# Altium integrated library ST Microcontroller 32-Bit.IntLib: 27 symbols (part 4 of 5)
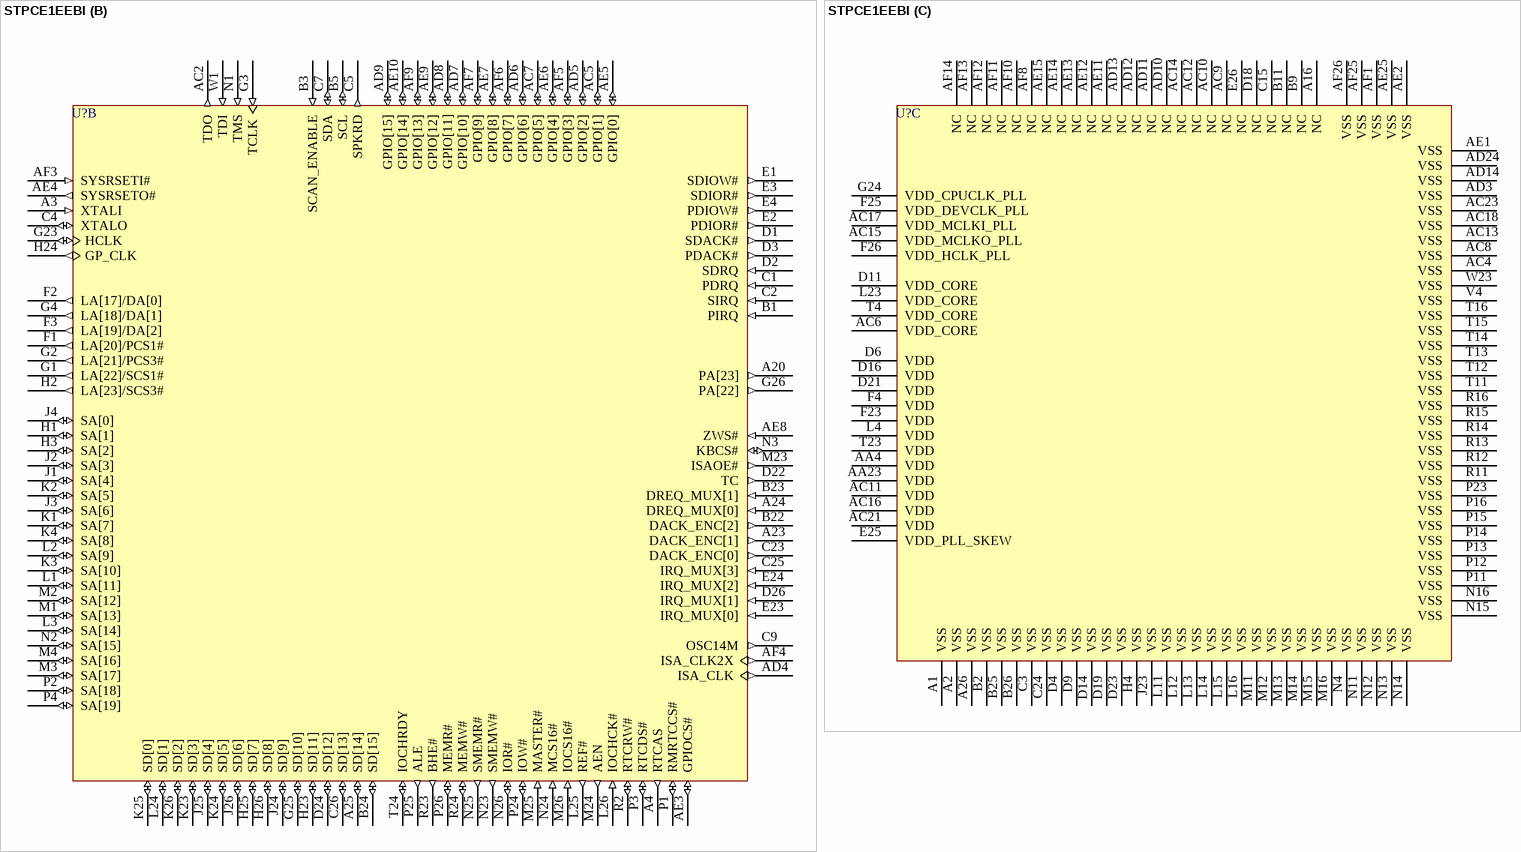
[diagram p66: symbol STPCE1EEBI]

## STPCE1EEBI
designator U?
X86 Core General Purpose PC Compatible System-on-Chip, 100 MHz Core Speed, 388-Pin PBGA, Industrial; Published: 26-May-2004; LatestRevisionDate: 6-Jun-2005; LatestRevisionNote: Stylized 3D Model Added.; DatasheetDocument: Release 1.3, 29-Jan-2002; PackageDocument: Oct-2000; PackageReference: PBGA388; Publisher: Altium Limited; ComponentLink1Description: Manufacturer Link; ComponentLink1URL: http://www.st.com/; ComponentLink2Description: Datasheet; ComponentLink2URL: http://www.st.com/stonline/products/literature/ds/7342/elite.pdf
footprint PBGA388 (BGA, Plastic; 388 Balls; Body 35 x 35 mm; Pitch 1.27 mm)
3D model STPCE1-PBGA388 (BGA, Plastic; 388 Balls; Body 35 x 35 mm; Pitch 1.27 mm)
part A pins: A5 PCI_INT[0] (in), A6 LOCK# (in), A7 STOP# (io), A8 FRAME# (io), A9 CBE[2] (io), A10 AD[31] (io), A11 AD[27] (io), A12 AD[25] (io), A13 AD[21] (io), A14 AD[18] (io), A15 AD[14] (io), A17 AD[9] (io), A18 AD[6] (io), A19 AD[3] (io), A21 PCI_REQ#[2] (in), A22 PCI_GNT#[1] (out), AA1 MD[20] (io), AA2 MD[18] (io), AA3 MD[24] (io), AA24 MD[44] (io), AA25 MD[42] (io), AA26 MD[45] (io), AB1 MD[23] (io), AB2 MD[22] (io), AB3 MD[27] (io), AB4 MD[25] (io), AB23 MCLKO (out), AB24 MD[40] (io), AB25 MD[39] (io), AB26 MD[41] (io), AC1 MD[26] (io), AC3 MD[29] (io), AC19 BA[0] (out), AC20 CAS#[1] (out), AC22 MWE# (out), AC24 MD[37] (io), AC25 MD[36] (io), AC26 MD[38] (io), AD1 MD[30] (io), AD2 MD[28] (io), AD15 MA[1] (out), AD16 MA[4] (out), AD17 MA[7] (out), AD18 DQM#[7] (out), AD19 DQM#[1] (out), AD20 DQM#[3] (out), AD21 CS#[1] (out), AD22 RAS#[1] (out), AD23 CS#[3]/MA[12]/BA[1] (out), AD25 MD[34] (io), AD26 MD[35] (io), AE16 MA[0] (out), AE17 MA[3] (out), AE18 MA[6] (out), AE19 MA[9] (out), AE20 MA[10] (out), AE21 CAS#[0] (out), AE22 DQM#[4] (out), AE23 DQM#[5] (out), AE24 CS#[2]/MA[11] (out), AE26 MD[33] (io), AF2 MD[31] (io), AF15 MCLKI (in), AF16 MA[2] (out), AF17 MA[5] (out), AF18 MA[8] (out), AF19 DQM#[6] (out), AF20 DQM#[0] (out), AF21 DQM#[2] (out), AF22 CS#[0] (out), AF23 RAS#[0] (out), AF24 MD[32] (io), B4 PCI_INT[2] (in), B6 PAR (io), B7 TRDY# (io), B8 CBE[3] (io), B10 AD[29] (io), B12 AD[23] (io), B13 AD[19] (io), B14 AD[16] (io), B15 AD[13] (io), B16 AD[11] (io), B17 AD[7] (io), B18 AD[5] (io), B19 AD[2] (io), B20 AD[0] (io), B21 PCI_GNT#[2] (out), C6 PCI_INT[1] (in), C8 DEVSEL# (io), C10 CBE[1] (io), C11 AD[30] (io), C12 AD[26] (io), C13 AD[24] (io), C14 AD[22] (io), C16 AD[15] (io), C17 AD[12] (io), C18 AD[8] (io), C19 AD[4] (io), C20 AD[1] (io), C21 PCI_REQ#[1] (in), C22 PCI_GNT#[0] (out), D5 PCI_INT[3] (in), D7 SERR# (out), D8 IRDY# (io), D10 CBE[0] (io), D12 AD[28] (io), D13 AD[20] (io), D15 AD[17] (io), D17 AD[10] (io), D20 PCI_REQ#[0] (in), D25 PCI_CLKO (out), F24 PCI_CLKI (in), R1 MD[0] (io), R3 MD[2] (io), R4 MD[4] (io), R25 MD[62] (io), R26 MD[63] (io), T1 MD[3] (io), T2 MD[1] (io), T3 MD[6] (io), T25 MD[59] (io), T26 MD[61] (io), U1 MD[7] (io), U2 MD[5] (io), U3 MD[10] (io), U4 MD[8] (io), U23 MD[58] (io), U24 MD[60] (io), U25 MD[55] (io), U26 MD[57] (io), V1 MD[11] (io), V2 MD[9] (io), V3 MD[13] (io), V23 MD[50] (io), V24 MD[56] (io), V25 MD[53] (io), V26 MD[54] (io), W2 MD[12] (io), W3 MD[17] (io), W4 MD[15] (io), W24 MD[52] (io), W25 MD[49] (io), W26 MD[51] (io), Y1 MD[16] (io), Y2 MD[14] (io), Y3 MD[21] (io), Y4 MD[19] (io), Y23 MD[43] (io), Y24 MD[48] (io), Y25 MD[46] (io), Y26 MD[47] (io)
part B pins: A3 XTALI (in), A4 RTCAS (out), A20 PA[23] (out), A23 DACK_ENC[1] (out), A24 DREQ_MUX[0] (in), A25 SD[14] (io), AC2 TDO (out), AC5 GPIO[1] (io), AC7 GPIO[5] (io), AD4 ISA_CLK (out), AD5 GPIO[2] (io), AD6 GPIO[6] (io), AD7 GPIO[10] (io), AD8 GPIO[11] (io), AD9 GPIO[15] (io), AE3 GPIOCS# (io), AE4 SYSRSETO# (out), AE5 GPIO[0] (io), AE6 GPIO[4] (io), AE7 GPIO[8] (io), AE8 ZWS# (in), AE9 GPIO[12] (io), AE10 GPIO[14] (io), AF3 SYSRSETI# (in), AF4 ISA_CLK2X (out), AF5 GPIO[3] (io), AF6 GPIO[7] (io), AF7 GPIO[9] (io), AF9 GPIO[13] (io), B1 PIRQ (in), B3 SCAN_ENABLE (in), B5 SCL (io), B22 DACK_ENC[2] (out), B23 DREQ_MUX[1] (in), B24 SD[15] (io), C1 PDRQ (in), C2 SIRQ (in), C4 XTALO (io), C5 SPKRD (out), C7 SDA (io), C9 OSC14M (out), C23 DACK_ENC[0] (out), C25 IRQ_MUX[3] (in), C26 SD[13] (io), D1 SDACK# (out), D2 SDRQ (in), D3 PDACK# (out), D22 TC (out), D24 SD[12] (io), D26 IRQ_MUX[1] (in), E1 SDIOW# (out), E2 PDIOR# (out), E3 SDIOR# (out), E4 PDIOW# (out), E23 IRQ_MUX[0] (in), E24 IRQ_MUX[2] (in), F1 LA[20]/PCS1# (out), F2 LA[17]/DA[0] (out), F3 LA[19]/DA[2] (out), G1 LA[22]/SCS1# (out), G2 LA[21]/PCS3# (out), G3 TCLK (in), G4 LA[18]/DA[1] (out), G23 HCLK (io), G25 SD[10] (io), G26 PA[22] (out), H1 SA[1] (io), H2 LA[23]/SCS3# (out), H3 SA[2] (io), H23 SD[11] (io), H24 GP_CLK (out), H25 SD[7] (io), H26 SD[8] (io), J1 SA[4] (io), J2 SA[3] (io), J3 SA[6] (io), J4 SA[0] (io), J24 SD[9] (io), J25 SD[4] (io), J26 SD[6] (io), K1 SA[7] (io), K2 SA[5] (io), K3 SA[10] (io), K4 SA[8] (io), K23 SD[3] (io), K24 SD[5] (io), K25 SD[0] (io), K26 SD[2] (io), L1 SA[11] (io), L2 SA[9] (io), L3 SA[14] (io), L24 SD[1] (io), L25 REF# (out), L26 IOCHCK# (in), M1 SA[13] (io), M2 SA[12] (io), M3 SA[17] (io), M4 SA[16] (io), M23 ISAOE# (out), M24 AEN (out), M25 MASTER# (in), M26 IOCS16# (in), N1 TMS (in), N2 SA[15] (io), N3 KBCS# (io), N23 SMEMW# (out), N24 MCS16# (in), N25 SMEMR# (out), N26 IOR# (io), P1 RMRTCCS# (io), P2 SA[18] (io), P3 RTCDS# (io), P4 SA[19] (io), P24 IOW# (io), P25 ALE (out), P26 MEMR# (io), R2 RTCRW# (io), R23 BHE# (out), R24 MEMW# (io), T24 IOCHRDY (io), W1 TDI (in)
part C pins: A1 VSS (power), A2 VSS (power), A16 NC, A26 VSS (power), AA4 VDD (power), AA23 VDD (power), AC4 VSS (power), AC6 VDD_CORE (power), AC8 VSS (power), AC9 NC, AC10 NC, AC11 VDD (power), AC12 NC, AC13 VSS (power), AC14 NC, AC15 VDD_MCLKO_PLL (power), AC16 VDD (power), AC17 VDD_MCLKI_PLL (power), AC18 VSS (power), AC21 VDD (power), AC23 VSS (power), AD3 VSS (power), AD10 NC, AD11 NC, AD12 NC, AD13 NC, AD14 VSS (power), AD24 VSS (power), AE1 VSS (power), AE2 VSS (power), AE11 NC, AE12 NC, AE13 NC, AE14 NC, AE15 NC, AE25 VSS (power), AF1 VSS (power), AF8 NC, AF10 NC, AF11 NC, AF12 NC, AF13 NC, AF14 NC, AF25 VSS (power), AF26 VSS (power), B2 VSS (power), B9 NC, B11 NC, B25 VSS (power), B26 VSS (power), C3 VSS (power), C15 NC, C24 VSS (power), D4 VSS (power), D6 VDD (power), D9 VSS (power), D11 VDD_CORE (power), D14 VSS (power), D16 VDD (power), D18 NC, D19 VSS (power), D21 VDD (power), D23 VSS (power), E25 VDD_PLL_SKEW (power), E26 NC, F4 VDD (power), F23 VDD (power), F25 VDD_DEVCLK_PLL (power), F26 VDD_HCLK_PLL (power), G24 VDD_CPUCLK_PLL (power), H4 VSS (power), J23 VSS (power), L4 VDD (power), L11 VSS (power), L12 VSS (power), L13 VSS (power), L14 VSS (power), L15 VSS (power), L16 VSS (power), L23 VDD_CORE (power), M11 VSS (power), M12 VSS (power), M13 VSS (power), M14 VSS (power), M15 VSS (power), M16 VSS (power), N4 VSS (power), N11 VSS (power), N12 VSS (power), N13 VSS (power), N14 VSS (power), N15 VSS (power), N16 VSS (power), P11 VSS (power), P12 VSS (power), P13 VSS (power), P14 VSS (power), P15 VSS (power), P16 VSS (power), P23 VSS (power), R11 VSS (power), R12 VSS (power), R13 VSS (power), R14 VSS (power), R15 VSS (power), R16 VSS (power), T4 VDD_CORE (power), T11 VSS (power), T12 VSS (power), T13 VSS (power), T14 VSS (power), T15 VSS (power), T16 VSS (power), T23 VDD (power), V4 VSS (power), W23 VSS (power)

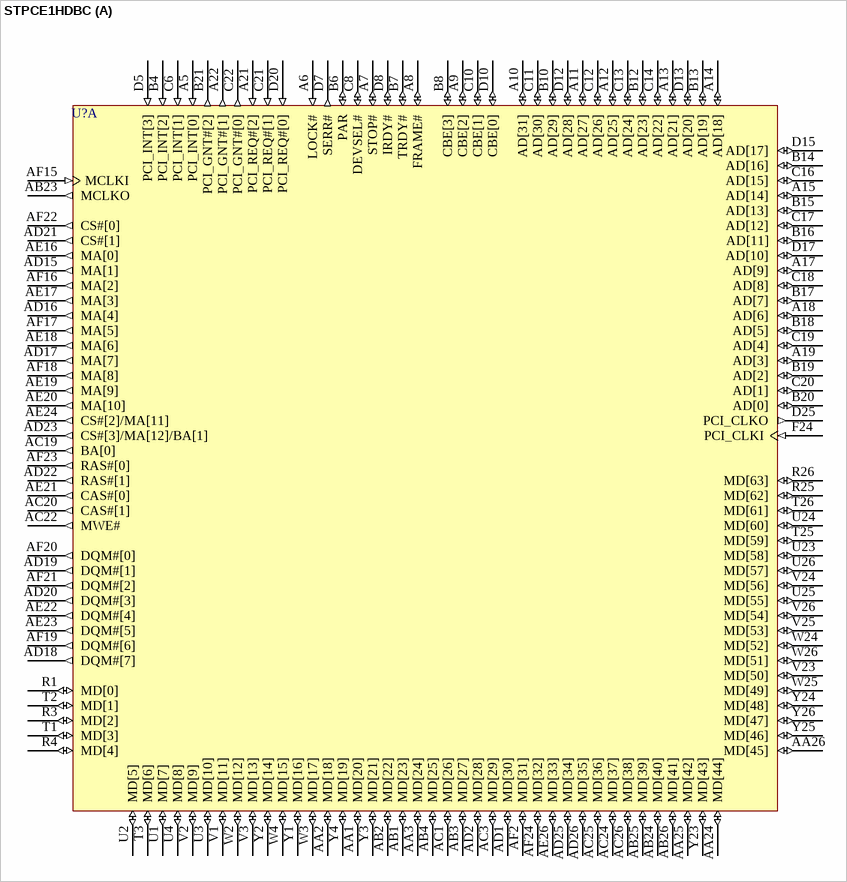
[diagram p42: symbol STPCE1HDBC]

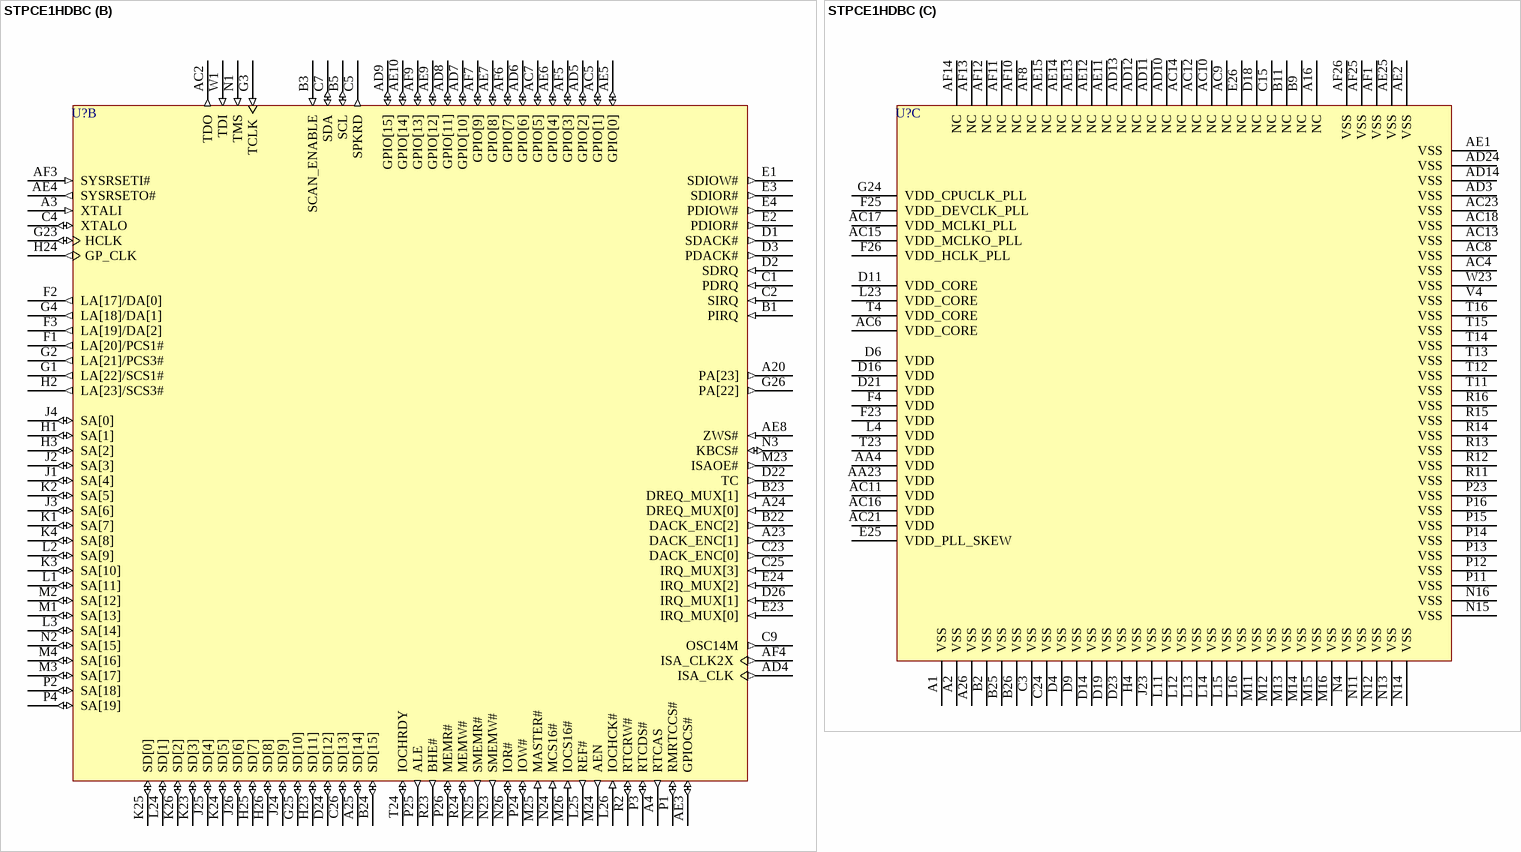
[diagram p43: symbol STPCE1HDBC]

## STPCE1HDBC
designator U?
X86 Core General Purpose PC Compatible System-on-Chip, 133 MHz Core Speed, 388-Pin PBGA, Commercial; Published: 26-May-2004; LatestRevisionDate: 6-Jun-2005; LatestRevisionNote: Stylized 3D Model Added.; DatasheetDocument: Release 1.3, 29-Jan-2002; PackageDocument: Oct-2000; PackageReference: PBGA388; Publisher: Altium Limited; ComponentLink1Description: Manufacturer Link; ComponentLink1URL: http://www.st.com/; ComponentLink2Description: Datasheet; ComponentLink2URL: http://www.st.com/stonline/products/literature/ds/7342/elite.pdf
footprint PBGA388 (BGA, Plastic; 388 Balls; Body 35 x 35 mm; Pitch 1.27 mm)
3D model STPCE1-PBGA388 (BGA, Plastic; 388 Balls; Body 35 x 35 mm; Pitch 1.27 mm)
part A pins: A5 PCI_INT[0] (in), A6 LOCK# (in), A7 STOP# (io), A8 FRAME# (io), A9 CBE[2] (io), A10 AD[31] (io), A11 AD[27] (io), A12 AD[25] (io), A13 AD[21] (io), A14 AD[18] (io), A15 AD[14] (io), A17 AD[9] (io), A18 AD[6] (io), A19 AD[3] (io), A21 PCI_REQ#[2] (in), A22 PCI_GNT#[1] (out), AA1 MD[20] (io), AA2 MD[18] (io), AA3 MD[24] (io), AA24 MD[44] (io), AA25 MD[42] (io), AA26 MD[45] (io), AB1 MD[23] (io), AB2 MD[22] (io), AB3 MD[27] (io), AB4 MD[25] (io), AB23 MCLKO (out), AB24 MD[40] (io), AB25 MD[39] (io), AB26 MD[41] (io), AC1 MD[26] (io), AC3 MD[29] (io), AC19 BA[0] (out), AC20 CAS#[1] (out), AC22 MWE# (out), AC24 MD[37] (io), AC25 MD[36] (io), AC26 MD[38] (io), AD1 MD[30] (io), AD2 MD[28] (io), AD15 MA[1] (out), AD16 MA[4] (out), AD17 MA[7] (out), AD18 DQM#[7] (out), AD19 DQM#[1] (out), AD20 DQM#[3] (out), AD21 CS#[1] (out), AD22 RAS#[1] (out), AD23 CS#[3]/MA[12]/BA[1] (out), AD25 MD[34] (io), AD26 MD[35] (io), AE16 MA[0] (out), AE17 MA[3] (out), AE18 MA[6] (out), AE19 MA[9] (out), AE20 MA[10] (out), AE21 CAS#[0] (out), AE22 DQM#[4] (out), AE23 DQM#[5] (out), AE24 CS#[2]/MA[11] (out), AE26 MD[33] (io), AF2 MD[31] (io), AF15 MCLKI (in), AF16 MA[2] (out), AF17 MA[5] (out), AF18 MA[8] (out), AF19 DQM#[6] (out), AF20 DQM#[0] (out), AF21 DQM#[2] (out), AF22 CS#[0] (out), AF23 RAS#[0] (out), AF24 MD[32] (io), B4 PCI_INT[2] (in), B6 PAR (io), B7 TRDY# (io), B8 CBE[3] (io), B10 AD[29] (io), B12 AD[23] (io), B13 AD[19] (io), B14 AD[16] (io), B15 AD[13] (io), B16 AD[11] (io), B17 AD[7] (io), B18 AD[5] (io), B19 AD[2] (io), B20 AD[0] (io), B21 PCI_GNT#[2] (out), C6 PCI_INT[1] (in), C8 DEVSEL# (io), C10 CBE[1] (io), C11 AD[30] (io), C12 AD[26] (io), C13 AD[24] (io), C14 AD[22] (io), C16 AD[15] (io), C17 AD[12] (io), C18 AD[8] (io), C19 AD[4] (io), C20 AD[1] (io), C21 PCI_REQ#[1] (in), C22 PCI_GNT#[0] (out), D5 PCI_INT[3] (in), D7 SERR# (out), D8 IRDY# (io), D10 CBE[0] (io), D12 AD[28] (io), D13 AD[20] (io), D15 AD[17] (io), D17 AD[10] (io), D20 PCI_REQ#[0] (in), D25 PCI_CLKO (out), F24 PCI_CLKI (in), R1 MD[0] (io), R3 MD[2] (io), R4 MD[4] (io), R25 MD[62] (io), R26 MD[63] (io), T1 MD[3] (io), T2 MD[1] (io), T3 MD[6] (io), T25 MD[59] (io), T26 MD[61] (io), U1 MD[7] (io), U2 MD[5] (io), U3 MD[10] (io), U4 MD[8] (io), U23 MD[58] (io), U24 MD[60] (io), U25 MD[55] (io), U26 MD[57] (io), V1 MD[11] (io), V2 MD[9] (io), V3 MD[13] (io), V23 MD[50] (io), V24 MD[56] (io), V25 MD[53] (io), V26 MD[54] (io), W2 MD[12] (io), W3 MD[17] (io), W4 MD[15] (io), W24 MD[52] (io), W25 MD[49] (io), W26 MD[51] (io), Y1 MD[16] (io), Y2 MD[14] (io), Y3 MD[21] (io), Y4 MD[19] (io), Y23 MD[43] (io), Y24 MD[48] (io), Y25 MD[46] (io), Y26 MD[47] (io)
part B pins: A3 XTALI (in), A4 RTCAS (out), A20 PA[23] (out), A23 DACK_ENC[1] (out), A24 DREQ_MUX[0] (in), A25 SD[14] (io), AC2 TDO (out), AC5 GPIO[1] (io), AC7 GPIO[5] (io), AD4 ISA_CLK (out), AD5 GPIO[2] (io), AD6 GPIO[6] (io), AD7 GPIO[10] (io), AD8 GPIO[11] (io), AD9 GPIO[15] (io), AE3 GPIOCS# (io), AE4 SYSRSETO# (out), AE5 GPIO[0] (io), AE6 GPIO[4] (io), AE7 GPIO[8] (io), AE8 ZWS# (in), AE9 GPIO[12] (io), AE10 GPIO[14] (io), AF3 SYSRSETI# (in), AF4 ISA_CLK2X (out), AF5 GPIO[3] (io), AF6 GPIO[7] (io), AF7 GPIO[9] (io), AF9 GPIO[13] (io), B1 PIRQ (in), B3 SCAN_ENABLE (in), B5 SCL (io), B22 DACK_ENC[2] (out), B23 DREQ_MUX[1] (in), B24 SD[15] (io), C1 PDRQ (in), C2 SIRQ (in), C4 XTALO (io), C5 SPKRD (out), C7 SDA (io), C9 OSC14M (out), C23 DACK_ENC[0] (out), C25 IRQ_MUX[3] (in), C26 SD[13] (io), D1 SDACK# (out), D2 SDRQ (in), D3 PDACK# (out), D22 TC (out), D24 SD[12] (io), D26 IRQ_MUX[1] (in), E1 SDIOW# (out), E2 PDIOR# (out), E3 SDIOR# (out), E4 PDIOW# (out), E23 IRQ_MUX[0] (in), E24 IRQ_MUX[2] (in), F1 LA[20]/PCS1# (out), F2 LA[17]/DA[0] (out), F3 LA[19]/DA[2] (out), G1 LA[22]/SCS1# (out), G2 LA[21]/PCS3# (out), G3 TCLK (in), G4 LA[18]/DA[1] (out), G23 HCLK (io), G25 SD[10] (io), G26 PA[22] (out), H1 SA[1] (io), H2 LA[23]/SCS3# (out), H3 SA[2] (io), H23 SD[11] (io), H24 GP_CLK (out), H25 SD[7] (io), H26 SD[8] (io), J1 SA[4] (io), J2 SA[3] (io), J3 SA[6] (io), J4 SA[0] (io), J24 SD[9] (io), J25 SD[4] (io), J26 SD[6] (io), K1 SA[7] (io), K2 SA[5] (io), K3 SA[10] (io), K4 SA[8] (io), K23 SD[3] (io), K24 SD[5] (io), K25 SD[0] (io), K26 SD[2] (io), L1 SA[11] (io), L2 SA[9] (io), L3 SA[14] (io), L24 SD[1] (io), L25 REF# (out), L26 IOCHCK# (in), M1 SA[13] (io), M2 SA[12] (io), M3 SA[17] (io), M4 SA[16] (io), M23 ISAOE# (out), M24 AEN (out), M25 MASTER# (in), M26 IOCS16# (in), N1 TMS (in), N2 SA[15] (io), N3 KBCS# (io), N23 SMEMW# (out), N24 MCS16# (in), N25 SMEMR# (out), N26 IOR# (io), P1 RMRTCCS# (io), P2 SA[18] (io), P3 RTCDS# (io), P4 SA[19] (io), P24 IOW# (io), P25 ALE (out), P26 MEMR# (io), R2 RTCRW# (io), R23 BHE# (out), R24 MEMW# (io), T24 IOCHRDY (io), W1 TDI (in)
part C pins: A1 VSS (power), A2 VSS (power), A16 NC, A26 VSS (power), AA4 VDD (power), AA23 VDD (power), AC4 VSS (power), AC6 VDD_CORE (power), AC8 VSS (power), AC9 NC, AC10 NC, AC11 VDD (power), AC12 NC, AC13 VSS (power), AC14 NC, AC15 VDD_MCLKO_PLL (power), AC16 VDD (power), AC17 VDD_MCLKI_PLL (power), AC18 VSS (power), AC21 VDD (power), AC23 VSS (power), AD3 VSS (power), AD10 NC, AD11 NC, AD12 NC, AD13 NC, AD14 VSS (power), AD24 VSS (power), AE1 VSS (power), AE2 VSS (power), AE11 NC, AE12 NC, AE13 NC, AE14 NC, AE15 NC, AE25 VSS (power), AF1 VSS (power), AF8 NC, AF10 NC, AF11 NC, AF12 NC, AF13 NC, AF14 NC, AF25 VSS (power), AF26 VSS (power), B2 VSS (power), B9 NC, B11 NC, B25 VSS (power), B26 VSS (power), C3 VSS (power), C15 NC, C24 VSS (power), D4 VSS (power), D6 VDD (power), D9 VSS (power), D11 VDD_CORE (power), D14 VSS (power), D16 VDD (power), D18 NC, D19 VSS (power), D21 VDD (power), D23 VSS (power), E25 VDD_PLL_SKEW (power), E26 NC, F4 VDD (power), F23 VDD (power), F25 VDD_DEVCLK_PLL (power), F26 VDD_HCLK_PLL (power), G24 VDD_CPUCLK_PLL (power), H4 VSS (power), J23 VSS (power), L4 VDD (power), L11 VSS (power), L12 VSS (power), L13 VSS (power), L14 VSS (power), L15 VSS (power), L16 VSS (power), L23 VDD_CORE (power), M11 VSS (power), M12 VSS (power), M13 VSS (power), M14 VSS (power), M15 VSS (power), M16 VSS (power), N4 VSS (power), N11 VSS (power), N12 VSS (power), N13 VSS (power), N14 VSS (power), N15 VSS (power), N16 VSS (power), P11 VSS (power), P12 VSS (power), P13 VSS (power), P14 VSS (power), P15 VSS (power), P16 VSS (power), P23 VSS (power), R11 VSS (power), R12 VSS (power), R13 VSS (power), R14 VSS (power), R15 VSS (power), R16 VSS (power), T4 VDD_CORE (power), T11 VSS (power), T12 VSS (power), T13 VSS (power), T14 VSS (power), T15 VSS (power), T16 VSS (power), T23 VDD (power), V4 VSS (power), W23 VSS (power)

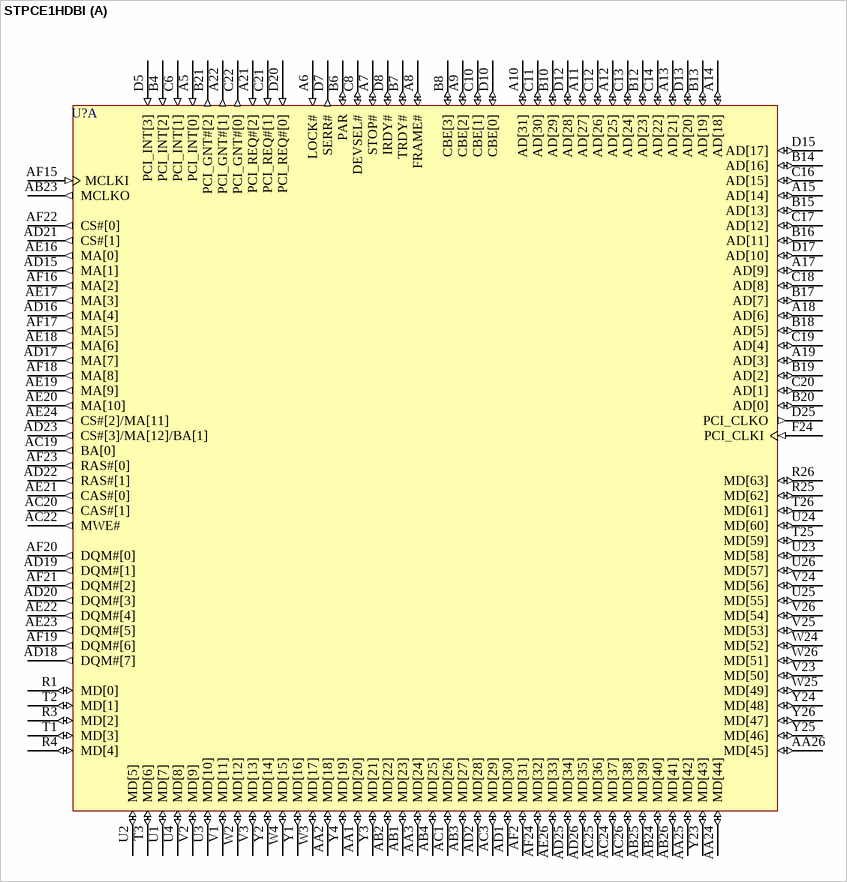
[diagram p44: symbol STPCE1HDBI]

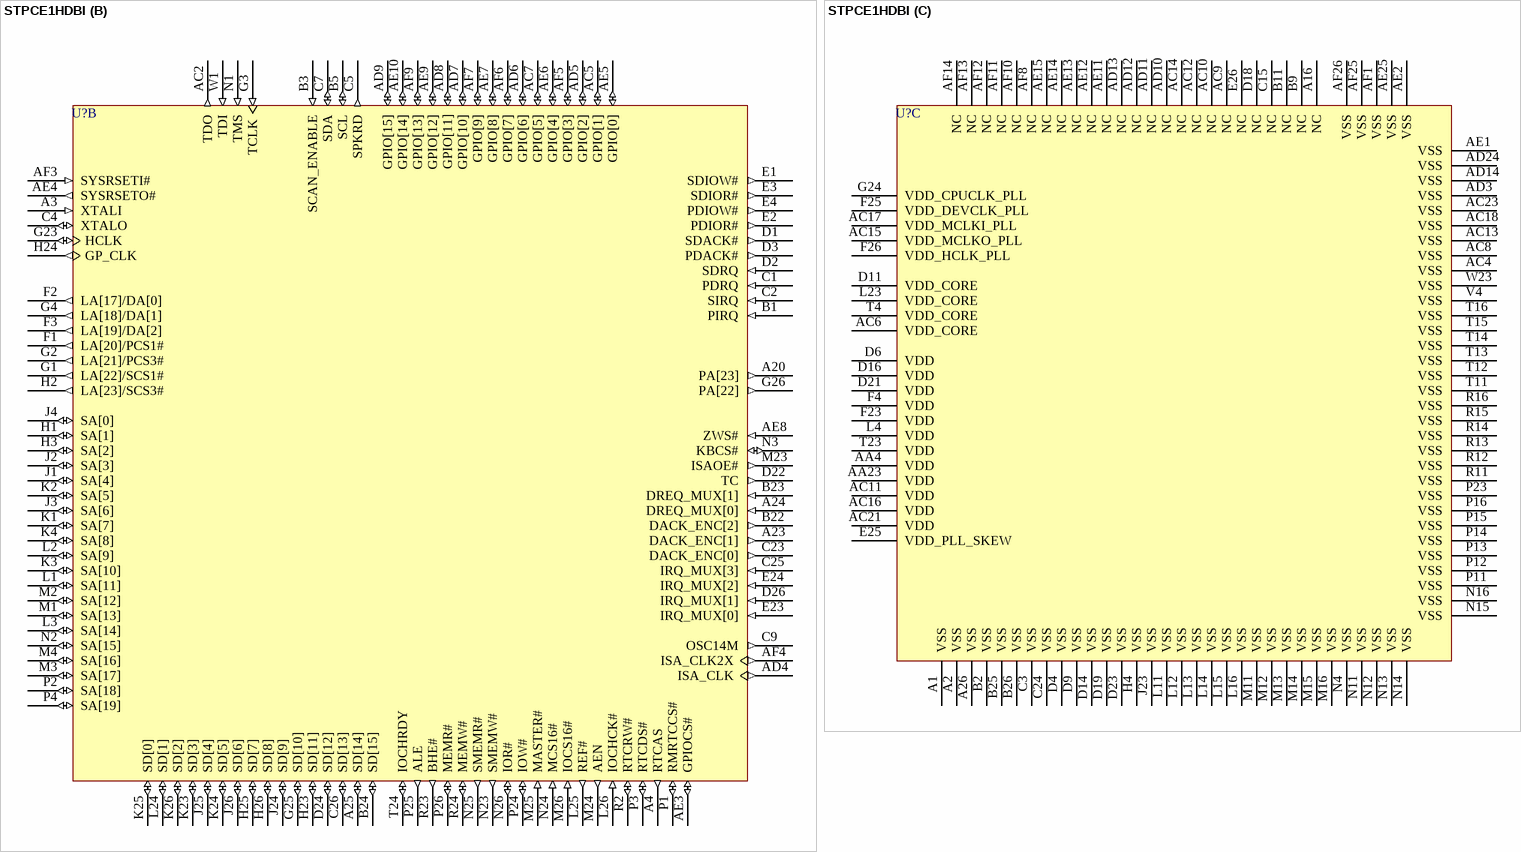
[diagram p45: symbol STPCE1HDBI]

## STPCE1HDBI
designator U?
X86 Core General Purpose PC Compatible System-on-Chip, 133 MHz Core Speed, 388-Pin PBGA, Industrial; Published: 26-May-2004; LatestRevisionDate: 6-Jun-2005; LatestRevisionNote: Stylized 3D Model Added.; DatasheetDocument: Release 1.3, 29-Jan-2002; PackageDocument: Oct-2000; PackageReference: PBGA388; Publisher: Altium Limited; ComponentLink1Description: Manufacturer Link; ComponentLink1URL: http://www.st.com/; ComponentLink2Description: Datasheet; ComponentLink2URL: http://www.st.com/stonline/products/literature/ds/7342/elite.pdf
footprint PBGA388 (BGA, Plastic; 388 Balls; Body 35 x 35 mm; Pitch 1.27 mm)
3D model STPCE1-PBGA388 (BGA, Plastic; 388 Balls; Body 35 x 35 mm; Pitch 1.27 mm)
part A pins: A5 PCI_INT[0] (in), A6 LOCK# (in), A7 STOP# (io), A8 FRAME# (io), A9 CBE[2] (io), A10 AD[31] (io), A11 AD[27] (io), A12 AD[25] (io), A13 AD[21] (io), A14 AD[18] (io), A15 AD[14] (io), A17 AD[9] (io), A18 AD[6] (io), A19 AD[3] (io), A21 PCI_REQ#[2] (in), A22 PCI_GNT#[1] (out), AA1 MD[20] (io), AA2 MD[18] (io), AA3 MD[24] (io), AA24 MD[44] (io), AA25 MD[42] (io), AA26 MD[45] (io), AB1 MD[23] (io), AB2 MD[22] (io), AB3 MD[27] (io), AB4 MD[25] (io), AB23 MCLKO (out), AB24 MD[40] (io), AB25 MD[39] (io), AB26 MD[41] (io), AC1 MD[26] (io), AC3 MD[29] (io), AC19 BA[0] (out), AC20 CAS#[1] (out), AC22 MWE# (out), AC24 MD[37] (io), AC25 MD[36] (io), AC26 MD[38] (io), AD1 MD[30] (io), AD2 MD[28] (io), AD15 MA[1] (out), AD16 MA[4] (out), AD17 MA[7] (out), AD18 DQM#[7] (out), AD19 DQM#[1] (out), AD20 DQM#[3] (out), AD21 CS#[1] (out), AD22 RAS#[1] (out), AD23 CS#[3]/MA[12]/BA[1] (out), AD25 MD[34] (io), AD26 MD[35] (io), AE16 MA[0] (out), AE17 MA[3] (out), AE18 MA[6] (out), AE19 MA[9] (out), AE20 MA[10] (out), AE21 CAS#[0] (out), AE22 DQM#[4] (out), AE23 DQM#[5] (out), AE24 CS#[2]/MA[11] (out), AE26 MD[33] (io), AF2 MD[31] (io), AF15 MCLKI (in), AF16 MA[2] (out), AF17 MA[5] (out), AF18 MA[8] (out), AF19 DQM#[6] (out), AF20 DQM#[0] (out), AF21 DQM#[2] (out), AF22 CS#[0] (out), AF23 RAS#[0] (out), AF24 MD[32] (io), B4 PCI_INT[2] (in), B6 PAR (io), B7 TRDY# (io), B8 CBE[3] (io), B10 AD[29] (io), B12 AD[23] (io), B13 AD[19] (io), B14 AD[16] (io), B15 AD[13] (io), B16 AD[11] (io), B17 AD[7] (io), B18 AD[5] (io), B19 AD[2] (io), B20 AD[0] (io), B21 PCI_GNT#[2] (out), C6 PCI_INT[1] (in), C8 DEVSEL# (io), C10 CBE[1] (io), C11 AD[30] (io), C12 AD[26] (io), C13 AD[24] (io), C14 AD[22] (io), C16 AD[15] (io), C17 AD[12] (io), C18 AD[8] (io), C19 AD[4] (io), C20 AD[1] (io), C21 PCI_REQ#[1] (in), C22 PCI_GNT#[0] (out), D5 PCI_INT[3] (in), D7 SERR# (out), D8 IRDY# (io), D10 CBE[0] (io), D12 AD[28] (io), D13 AD[20] (io), D15 AD[17] (io), D17 AD[10] (io), D20 PCI_REQ#[0] (in), D25 PCI_CLKO (out), F24 PCI_CLKI (in), R1 MD[0] (io), R3 MD[2] (io), R4 MD[4] (io), R25 MD[62] (io), R26 MD[63] (io), T1 MD[3] (io), T2 MD[1] (io), T3 MD[6] (io), T25 MD[59] (io), T26 MD[61] (io), U1 MD[7] (io), U2 MD[5] (io), U3 MD[10] (io), U4 MD[8] (io), U23 MD[58] (io), U24 MD[60] (io), U25 MD[55] (io), U26 MD[57] (io), V1 MD[11] (io), V2 MD[9] (io), V3 MD[13] (io), V23 MD[50] (io), V24 MD[56] (io), V25 MD[53] (io), V26 MD[54] (io), W2 MD[12] (io), W3 MD[17] (io), W4 MD[15] (io), W24 MD[52] (io), W25 MD[49] (io), W26 MD[51] (io), Y1 MD[16] (io), Y2 MD[14] (io), Y3 MD[21] (io), Y4 MD[19] (io), Y23 MD[43] (io), Y24 MD[48] (io), Y25 MD[46] (io), Y26 MD[47] (io)
part B pins: A3 XTALI (in), A4 RTCAS (out), A20 PA[23] (out), A23 DACK_ENC[1] (out), A24 DREQ_MUX[0] (in), A25 SD[14] (io), AC2 TDO (out), AC5 GPIO[1] (io), AC7 GPIO[5] (io), AD4 ISA_CLK (out), AD5 GPIO[2] (io), AD6 GPIO[6] (io), AD7 GPIO[10] (io), AD8 GPIO[11] (io), AD9 GPIO[15] (io), AE3 GPIOCS# (io), AE4 SYSRSETO# (out), AE5 GPIO[0] (io), AE6 GPIO[4] (io), AE7 GPIO[8] (io), AE8 ZWS# (in), AE9 GPIO[12] (io), AE10 GPIO[14] (io), AF3 SYSRSETI# (in), AF4 ISA_CLK2X (out), AF5 GPIO[3] (io), AF6 GPIO[7] (io), AF7 GPIO[9] (io), AF9 GPIO[13] (io), B1 PIRQ (in), B3 SCAN_ENABLE (in), B5 SCL (io), B22 DACK_ENC[2] (out), B23 DREQ_MUX[1] (in), B24 SD[15] (io), C1 PDRQ (in), C2 SIRQ (in), C4 XTALO (io), C5 SPKRD (out), C7 SDA (io), C9 OSC14M (out), C23 DACK_ENC[0] (out), C25 IRQ_MUX[3] (in), C26 SD[13] (io), D1 SDACK# (out), D2 SDRQ (in), D3 PDACK# (out), D22 TC (out), D24 SD[12] (io), D26 IRQ_MUX[1] (in), E1 SDIOW# (out), E2 PDIOR# (out), E3 SDIOR# (out), E4 PDIOW# (out), E23 IRQ_MUX[0] (in), E24 IRQ_MUX[2] (in), F1 LA[20]/PCS1# (out), F2 LA[17]/DA[0] (out), F3 LA[19]/DA[2] (out), G1 LA[22]/SCS1# (out), G2 LA[21]/PCS3# (out), G3 TCLK (in), G4 LA[18]/DA[1] (out), G23 HCLK (io), G25 SD[10] (io), G26 PA[22] (out), H1 SA[1] (io), H2 LA[23]/SCS3# (out), H3 SA[2] (io), H23 SD[11] (io), H24 GP_CLK (out), H25 SD[7] (io), H26 SD[8] (io), J1 SA[4] (io), J2 SA[3] (io), J3 SA[6] (io), J4 SA[0] (io), J24 SD[9] (io), J25 SD[4] (io), J26 SD[6] (io), K1 SA[7] (io), K2 SA[5] (io), K3 SA[10] (io), K4 SA[8] (io), K23 SD[3] (io), K24 SD[5] (io), K25 SD[0] (io), K26 SD[2] (io), L1 SA[11] (io), L2 SA[9] (io), L3 SA[14] (io), L24 SD[1] (io), L25 REF# (out), L26 IOCHCK# (in), M1 SA[13] (io), M2 SA[12] (io), M3 SA[17] (io), M4 SA[16] (io), M23 ISAOE# (out), M24 AEN (out), M25 MASTER# (in), M26 IOCS16# (in), N1 TMS (in), N2 SA[15] (io), N3 KBCS# (io), N23 SMEMW# (out), N24 MCS16# (in), N25 SMEMR# (out), N26 IOR# (io), P1 RMRTCCS# (io), P2 SA[18] (io), P3 RTCDS# (io), P4 SA[19] (io), P24 IOW# (io), P25 ALE (out), P26 MEMR# (io), R2 RTCRW# (io), R23 BHE# (out), R24 MEMW# (io), T24 IOCHRDY (io), W1 TDI (in)
part C pins: A1 VSS (power), A2 VSS (power), A16 NC, A26 VSS (power), AA4 VDD (power), AA23 VDD (power), AC4 VSS (power), AC6 VDD_CORE (power), AC8 VSS (power), AC9 NC, AC10 NC, AC11 VDD (power), AC12 NC, AC13 VSS (power), AC14 NC, AC15 VDD_MCLKO_PLL (power), AC16 VDD (power), AC17 VDD_MCLKI_PLL (power), AC18 VSS (power), AC21 VDD (power), AC23 VSS (power), AD3 VSS (power), AD10 NC, AD11 NC, AD12 NC, AD13 NC, AD14 VSS (power), AD24 VSS (power), AE1 VSS (power), AE2 VSS (power), AE11 NC, AE12 NC, AE13 NC, AE14 NC, AE15 NC, AE25 VSS (power), AF1 VSS (power), AF8 NC, AF10 NC, AF11 NC, AF12 NC, AF13 NC, AF14 NC, AF25 VSS (power), AF26 VSS (power), B2 VSS (power), B9 NC, B11 NC, B25 VSS (power), B26 VSS (power), C3 VSS (power), C15 NC, C24 VSS (power), D4 VSS (power), D6 VDD (power), D9 VSS (power), D11 VDD_CORE (power), D14 VSS (power), D16 VDD (power), D18 NC, D19 VSS (power), D21 VDD (power), D23 VSS (power), E25 VDD_PLL_SKEW (power), E26 NC, F4 VDD (power), F23 VDD (power), F25 VDD_DEVCLK_PLL (power), F26 VDD_HCLK_PLL (power), G24 VDD_CPUCLK_PLL (power), H4 VSS (power), J23 VSS (power), L4 VDD (power), L11 VSS (power), L12 VSS (power), L13 VSS (power), L14 VSS (power), L15 VSS (power), L16 VSS (power), L23 VDD_CORE (power), M11 VSS (power), M12 VSS (power), M13 VSS (power), M14 VSS (power), M15 VSS (power), M16 VSS (power), N4 VSS (power), N11 VSS (power), N12 VSS (power), N13 VSS (power), N14 VSS (power), N15 VSS (power), N16 VSS (power), P11 VSS (power), P12 VSS (power), P13 VSS (power), P14 VSS (power), P15 VSS (power), P16 VSS (power), P23 VSS (power), R11 VSS (power), R12 VSS (power), R13 VSS (power), R14 VSS (power), R15 VSS (power), R16 VSS (power), T4 VDD_CORE (power), T11 VSS (power), T12 VSS (power), T13 VSS (power), T14 VSS (power), T15 VSS (power), T16 VSS (power), T23 VDD (power), V4 VSS (power), W23 VSS (power)

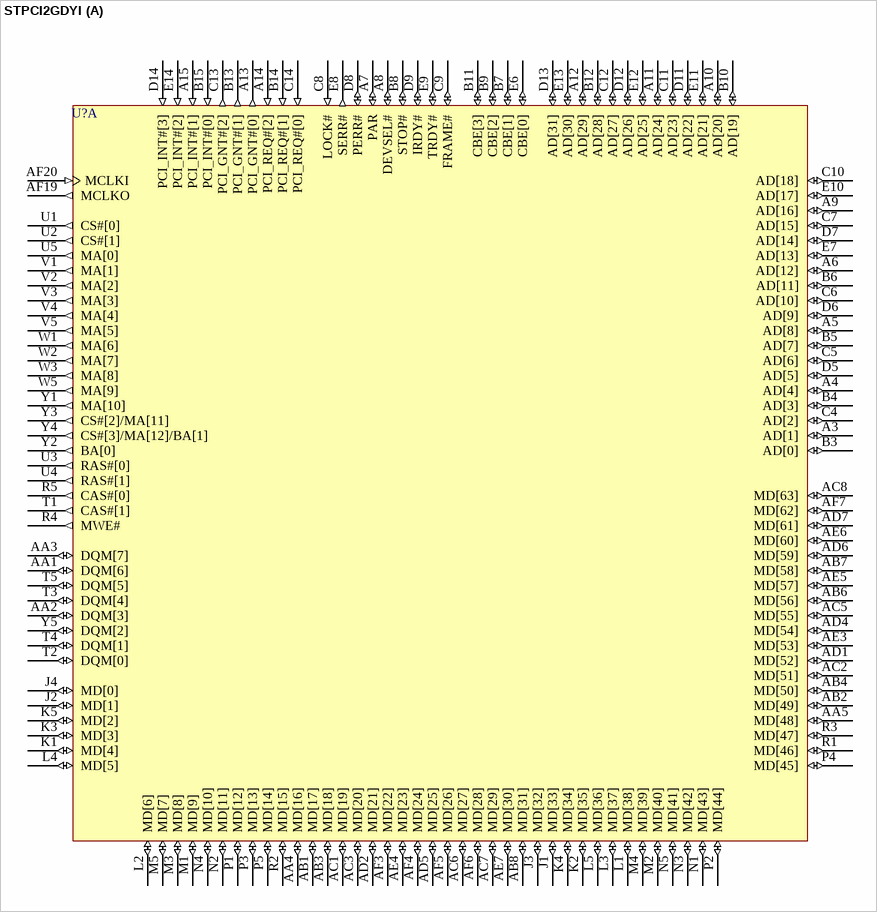
[diagram p46: symbol STPCI2GDYI]

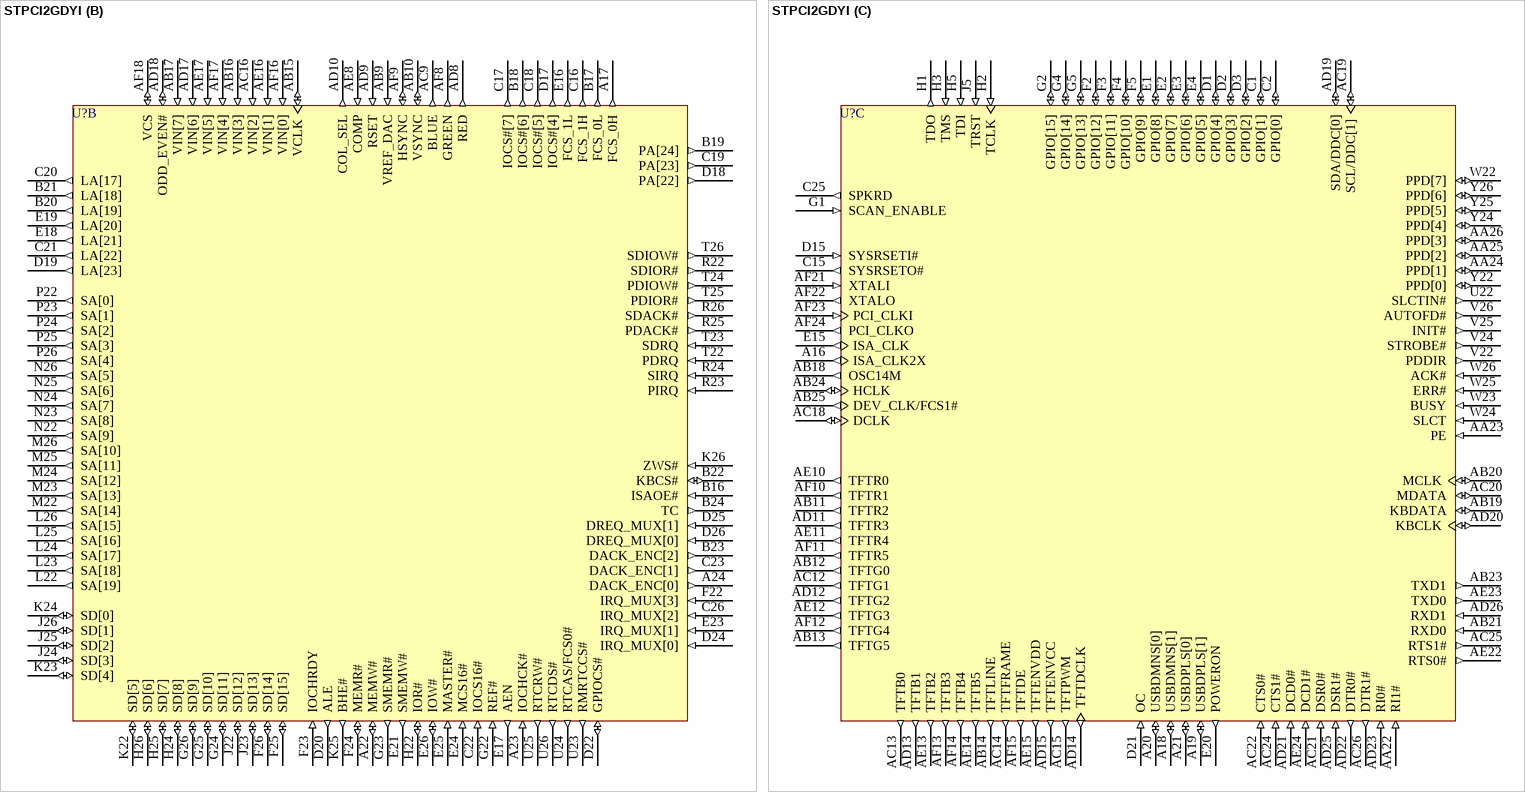
[diagram p47: symbol STPCI2GDYI]

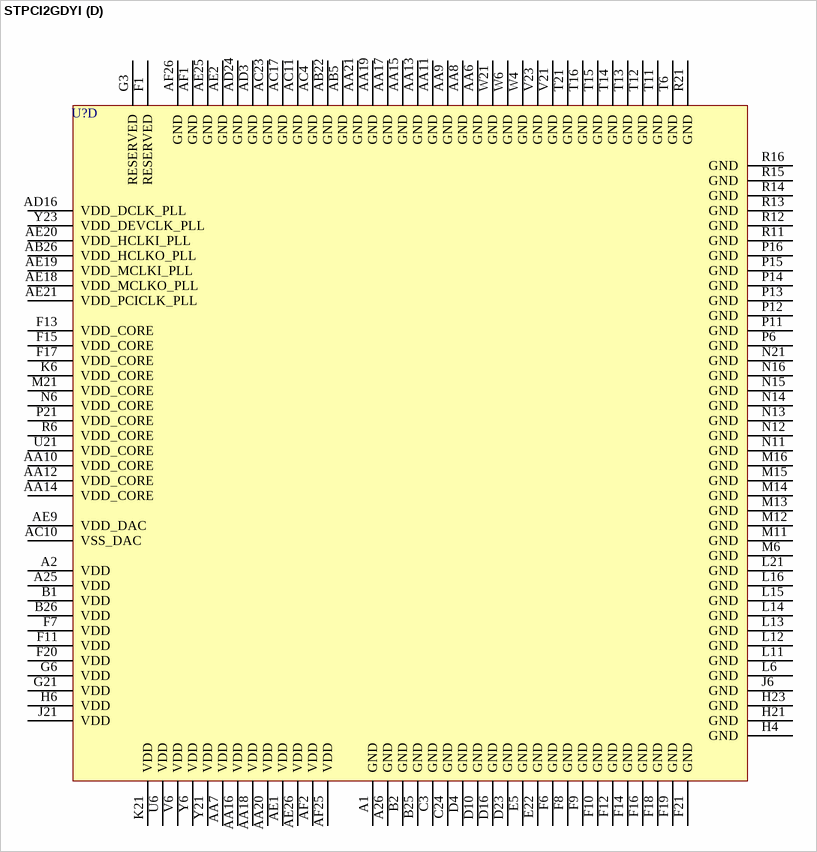
[diagram p48: symbol STPCI2GDYI]

## STPCI2GDYI
designator U?
X86 Core PC Compatible System-on-Chip for Terminals, 120 MHz Core Speed, 516-Pin PBGA, Industrial; Published: 26-May-2004; LatestRevisionDate: 6-Jun-2005; LatestRevisionNote: Stylized 3D Model Added.; DatasheetDocument: Issue 1.0, 24-Jul-2002; PackageDocument: Jul-2002; PackageReference: PBGA516; Publisher: Altium Limited; ComponentLink1Description: Manufacturer Link; ComponentLink1URL: http://www.st.com/; ComponentLink2Description: Datasheet; ComponentLink2URL: http://www.st.com/stonline/products/literature/ds/7341/atlas.pdf
footprint PBGA516 (BGA, Plastic; 516 Balls; Body 35 x 35 mm; Pitch 1.27 mm)
3D model STPCI2-PBGA516 (BGA, Plastic; 516 Balls; Body 35 x 35 mm; Pitch 1.27 mm)
part A pins: A3 AD[1] (io), A4 AD[4] (io), A5 AD[8] (io), A6 AD[12] (io), A7 PAR (io), A8 DEVSEL# (io), A9 AD[16] (io), A10 AD[20] (io), A11 AD[24] (io), A12 AD[29] (io), A13 PCI_GNT#[0] (out), A14 PCI_REQ#[2] (in), A15 PCI_INT#[1] (in), AA1 DQM[6] (io), AA2 DQM[3] (io), AA3 DQM[7] (io), AA4 MD[16] (io), AA5 MD[48] (io), AB1 MD[17] (io), AB2 MD[49] (io), AB3 MD[18] (io), AB4 MD[50] (io), AB6 MD[56] (io), AB7 MD[58] (io), AB8 MD[31] (io), AC1 MD[19] (io), AC2 MD[51] (io), AC3 MD[20] (io), AC5 MD[55] (io), AC6 MD[27] (io), AC7 MD[29] (io), AC8 MD[63] (io), AD1 MD[52] (io), AD2 MD[21] (io), AD4 MD[54] (io), AD5 MD[25] (io), AD6 MD[59] (io), AD7 MD[61] (io), AE3 MD[53] (io), AE4 MD[23] (io), AE5 MD[57] (io), AE6 MD[60] (io), AE7 MD[30] (io), AF3 MD[22] (io), AF4 MD[24] (io), AF5 MD[26] (io), AF6 MD[28] (io), AF7 MD[62] (io), AF19 MCLKO (out), AF20 MCLKI (in), B3 AD[0] (io), B4 AD[3] (io), B5 AD[7] (io), B6 AD[11] (io), B7 CBE[1] (io), B8 STOP# (io), B9 CBE[2] (io), B10 AD[19] (io), B11 CBE[3] (io), B12 AD[28] (io), B13 PCI_GNT#[1] (out), B14 PCI_REQ#[1] (in), B15 PCI_INT#[0] (in), C4 AD[2] (io), C5 AD[6] (io), C6 AD[10] (io), C7 AD[15] (io), C8 LOCK# (in), C9 FRAME# (io), C10 AD[18] (io), C11 AD[23] (io), C12 AD[27] (io), C13 PCI_GNT#[2] (out), C14 PCI_REQ#[0] (in), D5 AD[5] (io), D6 AD[9] (io), D7 AD[14] (io), D8 PERR# (io), D9 IRDY# (io), D11 AD[22] (io), D12 AD[26] (io), D13 AD[31] (io), D14 PCI_INT#[3] (in), E6 CBE[0] (io), E7 AD[13] (io), E8 SERR# (out), E9 TRDY# (io), E10 AD[17] (io), E11 AD[21] (io), E12 AD[25] (io), E13 AD[30] (io), E14 PCI_INT#[2] (in), J1 MD[33] (io), J2 MD[1] (io), J3 MD[32] (io), J4 MD[0] (io), K1 MD[4] (io), K2 MD[35] (io), K3 MD[3] (io), K4 MD[34] (io), K5 MD[2] (io), L1 MD[38] (io), L2 MD[6] (io), L3 MD[37] (io), L4 MD[5] (io), L5 MD[36] (io), M1 MD[9] (io), M2 MD[40] (io), M3 MD[8] (io), M4 MD[39] (io), M5 MD[7] (io), N1 MD[43] (io), N2 MD[11] (io), N3 MD[42] (io), N4 MD[10] (io), N5 MD[41] (io), P1 MD[12] (io), P2 MD[44] (io), P3 MD[13] (io), P4 MD[45] (io), P5 MD[14] (io), R1 MD[46] (io), R2 MD[15] (io), R3 MD[47] (io), R4 MWE# (out), R5 CAS#[0] (out), T1 CAS#[1] (out), T2 DQM[0] (io), T3 DQM[4] (io), T4 DQM[1] (io), T5 DQM[5] (io), U1 CS#[0] (out), U2 CS#[1] (out), U3 RAS#[0] (out), U4 RAS#[1] (out), U5 MA[0] (out), V1 MA[1] (out), V2 MA[2] (out), V3 MA[3] (out), V4 MA[4] (out), V5 MA[5] (out), W1 MA[6] (out), W2 MA[7] (out), W3 MA[8] (out), W5 MA[9] (out), Y1 MA[10] (out), Y2 BA[0] (out), Y3 CS#[2]/MA[11] (out), Y4 CS#[3]/MA[12]/BA[1] (out), Y5 DQM[2] (io)
part B pins: A17 FCS_0H (out), A22 MEMW# (io), A23 IOCHCK# (in), A24 DACK_ENC[0] (out), AB9 VREF_DAC (in), AB10 VSYNC (io), AB15 VCLK (io), AB16 VIN[3] (in), AB17 VIN[7] (in), AC9 BLUE (out), AC16 VIN[2] (in), AD8 RED (out), AD9 RSET (in), AD10 COL_SEL (out), AD17 VIN[6] (in), AD18 ODD_EVEN# (io), AE8 COMP (in), AE16 VIN[1] (in), AE17 VIN[5] (in), AF8 GREEN (out), AF9 HSYNC (io), AF16 VIN[0] (in), AF17 VIN[4] (in), AF18 VCS (io), B16 ISAOE# (in), B17 FCS_0L (out), B18 IOCS#[6] (out), B19 PA[24] (out), B20 LA[19] (out), B21 LA[18] (out), B22 KBCS# (io), B23 DACK_ENC[2] (out), B24 TC (out), C16 FCS_1H (out), C17 IOCS#[7] (out), C18 IOCS#[5] (out), C19 PA[23] (out), C20 LA[17] (out), C21 LA[22] (out), C22 IOCS16# (in), C23 DACK_ENC[1] (out), C26 IRQ_MUX[2] (in), D17 IOCS#[4] (out), D18 PA[22] (out), D19 LA[23] (out), D20 ALE (out), D22 GPIOCS# (io), D24 IRQ_MUX[0] (in), D25 DREQ_MUX[1] (in), D26 DREQ_MUX[0] (in), E16 FCS_1L (out), E17 AEN (out), E18 LA[21] (out), E19 LA[20] (out), E21 SMEMW# (out), E23 IRQ_MUX[1] (in), E24 MCS16# (in), E25 MASTER# (in), E26 IOW# (io), F22 IRQ_MUX[3] (in), F23 IOCHRDY (in), F24 MEMR# (io), F25 SD[15] (io), F26 SD[14] (io), G22 REF# (in), G23 SMEMR# (out), G24 SD[11] (io), G25 SD[10] (io), G26 SD[9] (io), H22 IOR# (io), H24 SD[8] (io), H25 SD[7] (io), H26 SD[6] (io), J22 SD[12] (io), J23 SD[13] (io), J24 SD[3] (io), J25 SD[2] (io), J26 SD[1] (io), K22 SD[5] (io), K23 SD[4] (io), K24 SD[0] (io), K25 BHE# (out), K26 ZWS# (in), L22 SA[19] (out), L23 SA[18] (out), L24 SA[17] (out), L25 SA[16] (out), L26 SA[15] (out), M22 SA[14] (out), M23 SA[13] (out), M24 SA[12] (out), M25 SA[11] (out), M26 SA[10] (out), N22 SA[9] (out), N23 SA[8] (out), N24 SA[7] (out), N25 SA[6] (out), N26 SA[5] (out), P22 SA[0] (out), P23 SA[1] (out), P24 SA[2] (out), P25 SA[3] (out), P26 SA[4] (out), R22 SDIOR# (out), R23 PIRQ (in), R24 SIRQ (in), R25 PDACK# (out), R26 SDACK# (out), T22 PDRQ (in), T23 SDRQ (in), T24 PDIOW# (out), T25 PDIOR# (out), T26 SDIOW# (out), U23 RMRTCCS# (out), U24 RTCAS/FCS0# (out), U25 RTCRW# (out), U26 RTCDS# (out)
part C pins: A16 ISA_CLK2X (out), A18 USBDMNS[1] (io), A19 USBDPLS[1] (io), A20 USBDMNS[0] (io), A21 USBDPLS[0] (io), AA22 RI1# (in), AA23 PE (in), AA24 PPD[1] (io), AA25 PPD[2] (io), AA26 PPD[3] (io), AB11 TFTR2 (out), AB12 TFTG0 (out), AB13 TFTG5 (out), AB14 TFTLINE (out), AB18 OSC14M (out), AB19 KBDATA (io), AB20 MCLK (io), AB21 RXD0 (in), AB23 TXD1 (out), AB24 HCLK (io), AB25 DEV_CLK/FCS1# (out), AC12 TFTG1 (out), AC13 TFTB0 (out), AC14 TFTFRAME (out), AC15 TFTPWM (out), AC18 DCLK (io), AC19 SCL/DDC[1] (io), AC20 MDATA (io), AC21 DSR0# (in), AC22 CTS0# (in), AC24 CTS1# (in), AC25 RTS1# (out), AC26 DTR1# (out), AD11 TFTR3 (out), AD12 TFTG2 (out), AD13 TFTB1 (out), AD14 TFTDCLK (out), AD15 TFTENVCC (out), AD19 SDA/DDC[0] (io), AD20 KBCLK (io), AD21 DCD0# (in), AD22 DTR0# (out), AD23 RI0# (in), AD25 DSR1# (in), AD26 RXD1 (in), AE10 TFTR0 (out), AE11 TFTR4 (out), AE12 TFTG3 (out), AE13 TFTB2 (out), AE14 TFTB5 (out), AE15 TFTENVDD (out), AE22 RTS0# (out), AE23 TXD0 (out), AE24 DCD1# (in), AF10 TFTR1 (out), AF11 TFTR5 (out), AF12 TFTG4 (out), AF13 TFTB3 (out), AF14 TFTB4 (out), AF15 TFTDE (out), AF21 XTALI (in), AF22 XTALO (out), AF23 PCI_CLKI (in), AF24 PCI_CLKO (out), C1 GPIO[1] (io), C2 GPIO[0] (io), C15 SYSRSETO# (out), C25 SPKRD (out), D1 GPIO[4] (io), D2 GPIO[3] (io), D3 GPIO[2] (io), D15 SYSRSETI# (in), D21 OC (in), E1 GPIO[8] (io), E2 GPIO[7] (io), E3 GPIO[6] (io), E4 GPIO[5] (io), E15 ISA_CLK (out), E20 POWERON (out), F2 GPIO[12] (io), F3 GPIO[11] (io), F4 GPIO[10] (io), F5 GPIO[9] (io), G1 SCAN_ENABLE (in), G2 GPIO[15] (io), G4 GPIO[14] (io), G5 GPIO[13] (io), H1 TDO (out), H2 TCLK (in), H3 TMS (in), H5 TDI (in), J5 TRST (in), U22 SLCTIN# (out), V22 PDDIR (out), V24 STROBE# (out), V25 INIT# (out), V26 AUTOFD# (out), W22 PPD[7] (io), W23 BUSY (in), W24 SLCT (in), W25 ERR# (in), W26 ACK# (in), Y22 PPD[0] (io), Y24 PPD[4] (io), Y25 PPD[5] (io), Y26 PPD[6] (io)
part D pins: A1 GND (power), A2 VDD (power), A25 VDD (power), A26 GND (power), AA6 GND (power), AA7 VDD (power), AA8 GND (power), AA9 GND (power), AA10 VDD_CORE (power), AA11 GND (power), AA12 VDD_CORE (power), AA13 GND (power), AA14 VDD_CORE (power), AA15 GND (power), AA16 VDD (power), AA17 GND (power), AA18 VDD (power), AA19 GND (power), AA20 VDD (power), AA21 GND (power), AB5 GND (power), AB22 GND (power), AB26 VDD_HCLKO_PLL (power), AC4 GND (power), AC10 VSS_DAC (power), AC11 GND (power), AC17 GND (power), AC23 GND (power), AD3 GND (power), AD16 VDD_DCLK_PLL (power), AD24 GND (power), AE1 VDD (power), AE2 GND (power), AE9 VDD_DAC (power), AE18 VDD_MCLKO_PLL (power), AE19 VDD_MCLKI_PLL (power), AE20 VDD_HCLKI_PLL (power), AE21 VDD_PCICLK_PLL (power), AE25 GND (power), AE26 VDD (power), AF1 GND (power), AF2 VDD (power), AF25 VDD (power), AF26 GND (power), B1 VDD (power), B2 GND (power), B25 GND (power), B26 VDD (power), C3 GND (power), C24 GND (power), D4 GND (power), D10 GND (power), D16 GND (power), D23 GND (power), E5 GND (power), E22 GND (power), F1 RESERVED, F6 GND (power), F7 VDD (power), F8 GND (power), F9 GND (power), F10 GND (power), F11 VDD (power), F12 GND (power), F13 VDD_CORE (power), F14 GND (power), F15 VDD_CORE (power), F16 GND (power), F17 VDD_CORE (power), F18 GND (power), F19 GND (power), F20 VDD (power), F21 GND (power), G3 RESERVED, G6 VDD (power), G21 VDD (power), H4 GND (power), H6 VDD (power), H21 GND (power), H23 GND (power), J6 GND (power), J21 VDD (power), K6 VDD_CORE (power), K21 VDD (power), L6 GND (power), L11 GND (power), L12 GND (power), L13 GND (power), L14 GND (power), L15 GND (power), L16 GND (power), L21 GND (power), M6 GND (power), M11 GND (power), M12 GND (power), M13 GND (power), M14 GND (power), M15 GND (power), M16 GND (power), M21 VDD_CORE (power), N6 VDD_CORE (power), N11 GND (power), N12 GND (power), N13 GND (power), N14 GND (power), N15 GND (power), N16 GND (power), N21 GND (power), P6 GND (power), P11 GND (power), P12 GND (power), P13 GND (power), P14 GND (power), P15 GND (power), P16 GND (power), P21 VDD_CORE (power), R6 VDD_CORE (power), R11 GND (power), R12 GND (power), R13 GND (power), R14 GND (power), R15 GND (power), R16 GND (power), R21 GND (power), T6 GND (power), T11 GND (power), T12 GND (power), T13 GND (power), T14 GND (power), T15 GND (power), T16 GND (power), T21 GND (power), U6 VDD (power), U21 VDD_CORE (power), V6 VDD (power), V21 GND (power), V23 GND (power), W4 GND (power), W6 GND (power), W21 GND (power), Y6 VDD (power), Y21 VDD (power), Y23 VDD_DEVCLK_PLL (power)

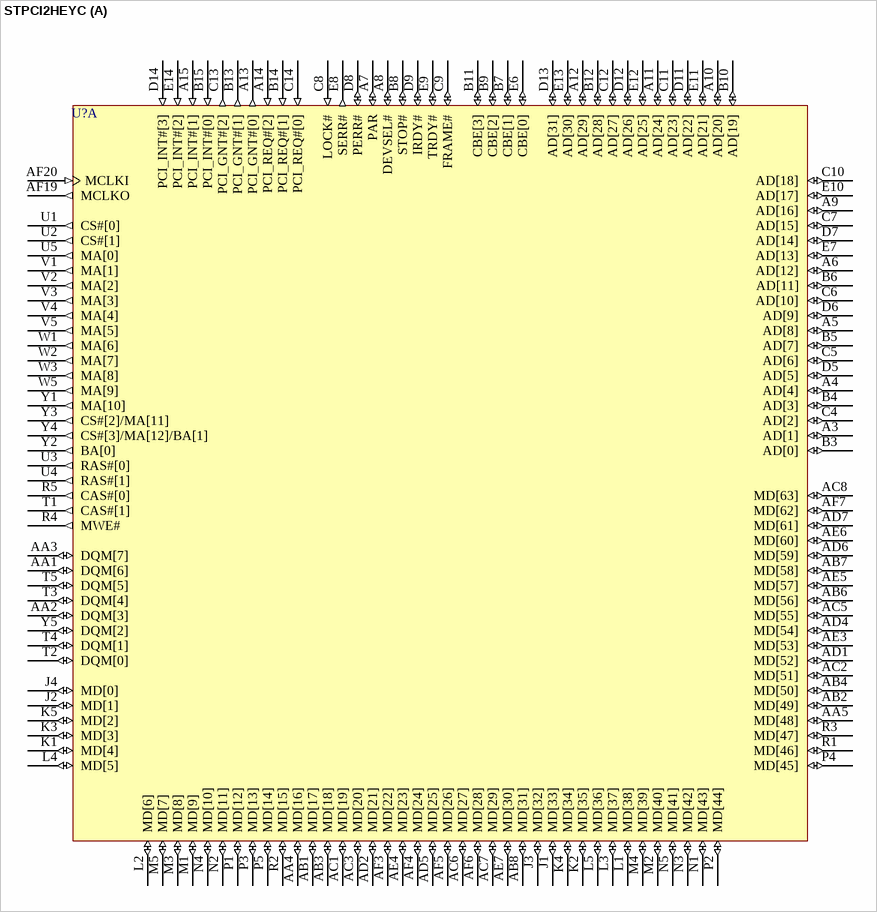
[diagram p49: symbol STPCI2HEYC]

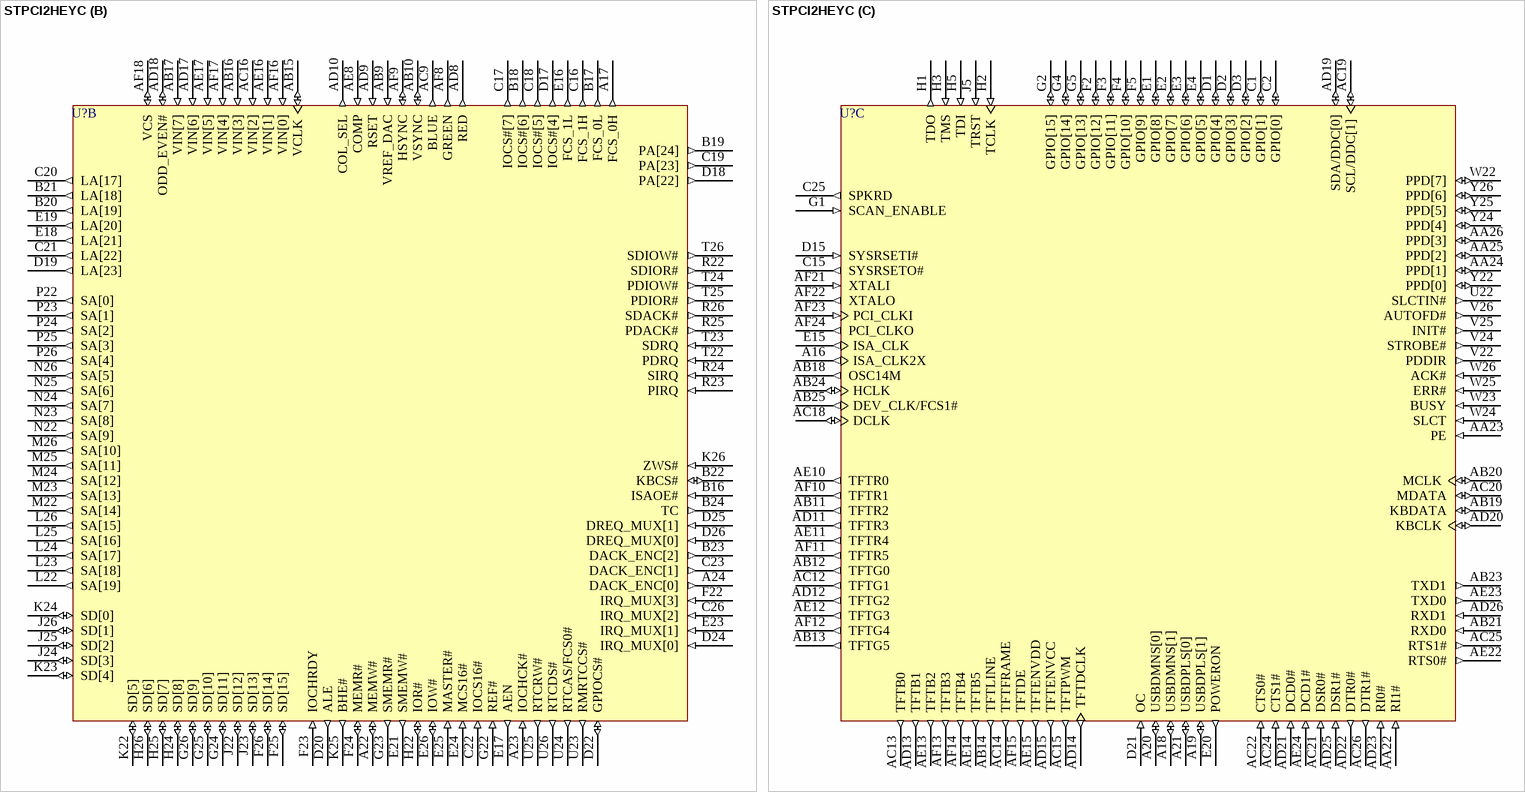
[diagram p50: symbol STPCI2HEYC]

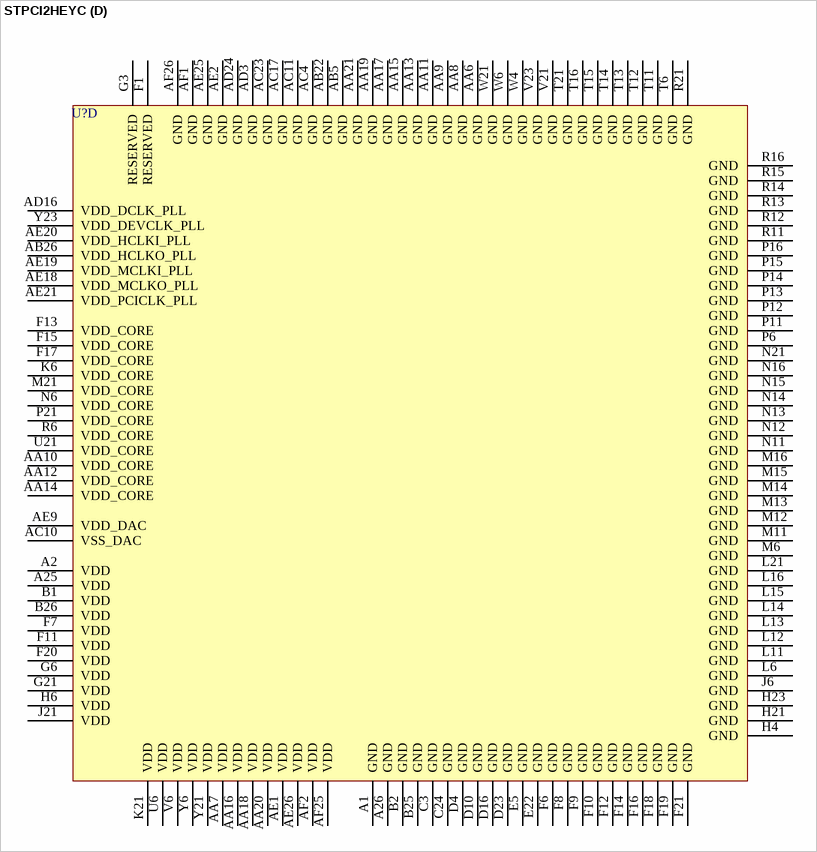
[diagram p51: symbol STPCI2HEYC]

## STPCI2HEYC
designator U?
X86 Core PC Compatible System-on-Chip for Terminals, 133 MHz Core Speed, 516-Pin PBGA, Commercial; Published: 26-May-2004; LatestRevisionDate: 6-Jun-2005; LatestRevisionNote: Stylized 3D Model Added.; DatasheetDocument: Issue 1.0, 24-Jul-2002; PackageDocument: Jul-2002; PackageReference: PBGA516; Publisher: Altium Limited; ComponentLink1Description: Manufacturer Link; ComponentLink1URL: http://www.st.com/; ComponentLink2Description: Datasheet; ComponentLink2URL: http://www.st.com/stonline/products/literature/ds/7341/atlas.pdf
footprint PBGA516 (BGA, Plastic; 516 Balls; Body 35 x 35 mm; Pitch 1.27 mm)
3D model STPCI2-PBGA516 (BGA, Plastic; 516 Balls; Body 35 x 35 mm; Pitch 1.27 mm)
part A pins: A3 AD[1] (io), A4 AD[4] (io), A5 AD[8] (io), A6 AD[12] (io), A7 PAR (io), A8 DEVSEL# (io), A9 AD[16] (io), A10 AD[20] (io), A11 AD[24] (io), A12 AD[29] (io), A13 PCI_GNT#[0] (out), A14 PCI_REQ#[2] (in), A15 PCI_INT#[1] (in), AA1 DQM[6] (io), AA2 DQM[3] (io), AA3 DQM[7] (io), AA4 MD[16] (io), AA5 MD[48] (io), AB1 MD[17] (io), AB2 MD[49] (io), AB3 MD[18] (io), AB4 MD[50] (io), AB6 MD[56] (io), AB7 MD[58] (io), AB8 MD[31] (io), AC1 MD[19] (io), AC2 MD[51] (io), AC3 MD[20] (io), AC5 MD[55] (io), AC6 MD[27] (io), AC7 MD[29] (io), AC8 MD[63] (io), AD1 MD[52] (io), AD2 MD[21] (io), AD4 MD[54] (io), AD5 MD[25] (io), AD6 MD[59] (io), AD7 MD[61] (io), AE3 MD[53] (io), AE4 MD[23] (io), AE5 MD[57] (io), AE6 MD[60] (io), AE7 MD[30] (io), AF3 MD[22] (io), AF4 MD[24] (io), AF5 MD[26] (io), AF6 MD[28] (io), AF7 MD[62] (io), AF19 MCLKO (out), AF20 MCLKI (in), B3 AD[0] (io), B4 AD[3] (io), B5 AD[7] (io), B6 AD[11] (io), B7 CBE[1] (io), B8 STOP# (io), B9 CBE[2] (io), B10 AD[19] (io), B11 CBE[3] (io), B12 AD[28] (io), B13 PCI_GNT#[1] (out), B14 PCI_REQ#[1] (in), B15 PCI_INT#[0] (in), C4 AD[2] (io), C5 AD[6] (io), C6 AD[10] (io), C7 AD[15] (io), C8 LOCK# (in), C9 FRAME# (io), C10 AD[18] (io), C11 AD[23] (io), C12 AD[27] (io), C13 PCI_GNT#[2] (out), C14 PCI_REQ#[0] (in), D5 AD[5] (io), D6 AD[9] (io), D7 AD[14] (io), D8 PERR# (io), D9 IRDY# (io), D11 AD[22] (io), D12 AD[26] (io), D13 AD[31] (io), D14 PCI_INT#[3] (in), E6 CBE[0] (io), E7 AD[13] (io), E8 SERR# (out), E9 TRDY# (io), E10 AD[17] (io), E11 AD[21] (io), E12 AD[25] (io), E13 AD[30] (io), E14 PCI_INT#[2] (in), J1 MD[33] (io), J2 MD[1] (io), J3 MD[32] (io), J4 MD[0] (io), K1 MD[4] (io), K2 MD[35] (io), K3 MD[3] (io), K4 MD[34] (io), K5 MD[2] (io), L1 MD[38] (io), L2 MD[6] (io), L3 MD[37] (io), L4 MD[5] (io), L5 MD[36] (io), M1 MD[9] (io), M2 MD[40] (io), M3 MD[8] (io), M4 MD[39] (io), M5 MD[7] (io), N1 MD[43] (io), N2 MD[11] (io), N3 MD[42] (io), N4 MD[10] (io), N5 MD[41] (io), P1 MD[12] (io), P2 MD[44] (io), P3 MD[13] (io), P4 MD[45] (io), P5 MD[14] (io), R1 MD[46] (io), R2 MD[15] (io), R3 MD[47] (io), R4 MWE# (out), R5 CAS#[0] (out), T1 CAS#[1] (out), T2 DQM[0] (io), T3 DQM[4] (io), T4 DQM[1] (io), T5 DQM[5] (io), U1 CS#[0] (out), U2 CS#[1] (out), U3 RAS#[0] (out), U4 RAS#[1] (out), U5 MA[0] (out), V1 MA[1] (out), V2 MA[2] (out), V3 MA[3] (out), V4 MA[4] (out), V5 MA[5] (out), W1 MA[6] (out), W2 MA[7] (out), W3 MA[8] (out), W5 MA[9] (out), Y1 MA[10] (out), Y2 BA[0] (out), Y3 CS#[2]/MA[11] (out), Y4 CS#[3]/MA[12]/BA[1] (out), Y5 DQM[2] (io)
part B pins: A17 FCS_0H (out), A22 MEMW# (io), A23 IOCHCK# (in), A24 DACK_ENC[0] (out), AB9 VREF_DAC (in), AB10 VSYNC (io), AB15 VCLK (io), AB16 VIN[3] (in), AB17 VIN[7] (in), AC9 BLUE (out), AC16 VIN[2] (in), AD8 RED (out), AD9 RSET (in), AD10 COL_SEL (out), AD17 VIN[6] (in), AD18 ODD_EVEN# (io), AE8 COMP (in), AE16 VIN[1] (in), AE17 VIN[5] (in), AF8 GREEN (out), AF9 HSYNC (io), AF16 VIN[0] (in), AF17 VIN[4] (in), AF18 VCS (io), B16 ISAOE# (in), B17 FCS_0L (out), B18 IOCS#[6] (out), B19 PA[24] (out), B20 LA[19] (out), B21 LA[18] (out), B22 KBCS# (io), B23 DACK_ENC[2] (out), B24 TC (out), C16 FCS_1H (out), C17 IOCS#[7] (out), C18 IOCS#[5] (out), C19 PA[23] (out), C20 LA[17] (out), C21 LA[22] (out), C22 IOCS16# (in), C23 DACK_ENC[1] (out), C26 IRQ_MUX[2] (in), D17 IOCS#[4] (out), D18 PA[22] (out), D19 LA[23] (out), D20 ALE (out), D22 GPIOCS# (io), D24 IRQ_MUX[0] (in), D25 DREQ_MUX[1] (in), D26 DREQ_MUX[0] (in), E16 FCS_1L (out), E17 AEN (out), E18 LA[21] (out), E19 LA[20] (out), E21 SMEMW# (out), E23 IRQ_MUX[1] (in), E24 MCS16# (in), E25 MASTER# (in), E26 IOW# (io), F22 IRQ_MUX[3] (in), F23 IOCHRDY (in), F24 MEMR# (io), F25 SD[15] (io), F26 SD[14] (io), G22 REF# (in), G23 SMEMR# (out), G24 SD[11] (io), G25 SD[10] (io), G26 SD[9] (io), H22 IOR# (io), H24 SD[8] (io), H25 SD[7] (io), H26 SD[6] (io), J22 SD[12] (io), J23 SD[13] (io), J24 SD[3] (io), J25 SD[2] (io), J26 SD[1] (io), K22 SD[5] (io), K23 SD[4] (io), K24 SD[0] (io), K25 BHE# (out), K26 ZWS# (in), L22 SA[19] (out), L23 SA[18] (out), L24 SA[17] (out), L25 SA[16] (out), L26 SA[15] (out), M22 SA[14] (out), M23 SA[13] (out), M24 SA[12] (out), M25 SA[11] (out), M26 SA[10] (out), N22 SA[9] (out), N23 SA[8] (out), N24 SA[7] (out), N25 SA[6] (out), N26 SA[5] (out), P22 SA[0] (out), P23 SA[1] (out), P24 SA[2] (out), P25 SA[3] (out), P26 SA[4] (out), R22 SDIOR# (out), R23 PIRQ (in), R24 SIRQ (in), R25 PDACK# (out), R26 SDACK# (out), T22 PDRQ (in), T23 SDRQ (in), T24 PDIOW# (out), T25 PDIOR# (out), T26 SDIOW# (out), U23 RMRTCCS# (out), U24 RTCAS/FCS0# (out), U25 RTCRW# (out), U26 RTCDS# (out)
part C pins: A16 ISA_CLK2X (out), A18 USBDMNS[1] (io), A19 USBDPLS[1] (io), A20 USBDMNS[0] (io), A21 USBDPLS[0] (io), AA22 RI1# (in), AA23 PE (in), AA24 PPD[1] (io), AA25 PPD[2] (io), AA26 PPD[3] (io), AB11 TFTR2 (out), AB12 TFTG0 (out), AB13 TFTG5 (out), AB14 TFTLINE (out), AB18 OSC14M (out), AB19 KBDATA (io), AB20 MCLK (io), AB21 RXD0 (in), AB23 TXD1 (out), AB24 HCLK (io), AB25 DEV_CLK/FCS1# (out), AC12 TFTG1 (out), AC13 TFTB0 (out), AC14 TFTFRAME (out), AC15 TFTPWM (out), AC18 DCLK (io), AC19 SCL/DDC[1] (io), AC20 MDATA (io), AC21 DSR0# (in), AC22 CTS0# (in), AC24 CTS1# (in), AC25 RTS1# (out), AC26 DTR1# (out), AD11 TFTR3 (out), AD12 TFTG2 (out), AD13 TFTB1 (out), AD14 TFTDCLK (out), AD15 TFTENVCC (out), AD19 SDA/DDC[0] (io), AD20 KBCLK (io), AD21 DCD0# (in), AD22 DTR0# (out), AD23 RI0# (in), AD25 DSR1# (in), AD26 RXD1 (in), AE10 TFTR0 (out), AE11 TFTR4 (out), AE12 TFTG3 (out), AE13 TFTB2 (out), AE14 TFTB5 (out), AE15 TFTENVDD (out), AE22 RTS0# (out), AE23 TXD0 (out), AE24 DCD1# (in), AF10 TFTR1 (out), AF11 TFTR5 (out), AF12 TFTG4 (out), AF13 TFTB3 (out), AF14 TFTB4 (out), AF15 TFTDE (out), AF21 XTALI (in), AF22 XTALO (out), AF23 PCI_CLKI (in), AF24 PCI_CLKO (out), C1 GPIO[1] (io), C2 GPIO[0] (io), C15 SYSRSETO# (out), C25 SPKRD (out), D1 GPIO[4] (io), D2 GPIO[3] (io), D3 GPIO[2] (io), D15 SYSRSETI# (in), D21 OC (in), E1 GPIO[8] (io), E2 GPIO[7] (io), E3 GPIO[6] (io), E4 GPIO[5] (io), E15 ISA_CLK (out), E20 POWERON (out), F2 GPIO[12] (io), F3 GPIO[11] (io), F4 GPIO[10] (io), F5 GPIO[9] (io), G1 SCAN_ENABLE (in), G2 GPIO[15] (io), G4 GPIO[14] (io), G5 GPIO[13] (io), H1 TDO (out), H2 TCLK (in), H3 TMS (in), H5 TDI (in), J5 TRST (in), U22 SLCTIN# (out), V22 PDDIR (out), V24 STROBE# (out), V25 INIT# (out), V26 AUTOFD# (out), W22 PPD[7] (io), W23 BUSY (in), W24 SLCT (in), W25 ERR# (in), W26 ACK# (in), Y22 PPD[0] (io), Y24 PPD[4] (io), Y25 PPD[5] (io), Y26 PPD[6] (io)
part D pins: A1 GND (power), A2 VDD (power), A25 VDD (power), A26 GND (power), AA6 GND (power), AA7 VDD (power), AA8 GND (power), AA9 GND (power), AA10 VDD_CORE (power), AA11 GND (power), AA12 VDD_CORE (power), AA13 GND (power), AA14 VDD_CORE (power), AA15 GND (power), AA16 VDD (power), AA17 GND (power), AA18 VDD (power), AA19 GND (power), AA20 VDD (power), AA21 GND (power), AB5 GND (power), AB22 GND (power), AB26 VDD_HCLKO_PLL (power), AC4 GND (power), AC10 VSS_DAC (power), AC11 GND (power), AC17 GND (power), AC23 GND (power), AD3 GND (power), AD16 VDD_DCLK_PLL (power), AD24 GND (power), AE1 VDD (power), AE2 GND (power), AE9 VDD_DAC (power), AE18 VDD_MCLKO_PLL (power), AE19 VDD_MCLKI_PLL (power), AE20 VDD_HCLKI_PLL (power), AE21 VDD_PCICLK_PLL (power), AE25 GND (power), AE26 VDD (power), AF1 GND (power), AF2 VDD (power), AF25 VDD (power), AF26 GND (power), B1 VDD (power), B2 GND (power), B25 GND (power), B26 VDD (power), C3 GND (power), C24 GND (power), D4 GND (power), D10 GND (power), D16 GND (power), D23 GND (power), E5 GND (power), E22 GND (power), F1 RESERVED, F6 GND (power), F7 VDD (power), F8 GND (power), F9 GND (power), F10 GND (power), F11 VDD (power), F12 GND (power), F13 VDD_CORE (power), F14 GND (power), F15 VDD_CORE (power), F16 GND (power), F17 VDD_CORE (power), F18 GND (power), F19 GND (power), F20 VDD (power), F21 GND (power), G3 RESERVED, G6 VDD (power), G21 VDD (power), H4 GND (power), H6 VDD (power), H21 GND (power), H23 GND (power), J6 GND (power), J21 VDD (power), K6 VDD_CORE (power), K21 VDD (power), L6 GND (power), L11 GND (power), L12 GND (power), L13 GND (power), L14 GND (power), L15 GND (power), L16 GND (power), L21 GND (power), M6 GND (power), M11 GND (power), M12 GND (power), M13 GND (power), M14 GND (power), M15 GND (power), M16 GND (power), M21 VDD_CORE (power), N6 VDD_CORE (power), N11 GND (power), N12 GND (power), N13 GND (power), N14 GND (power), N15 GND (power), N16 GND (power), N21 GND (power), P6 GND (power), P11 GND (power), P12 GND (power), P13 GND (power), P14 GND (power), P15 GND (power), P16 GND (power), P21 VDD_CORE (power), R6 VDD_CORE (power), R11 GND (power), R12 GND (power), R13 GND (power), R14 GND (power), R15 GND (power), R16 GND (power), R21 GND (power), T6 GND (power), T11 GND (power), T12 GND (power), T13 GND (power), T14 GND (power), T15 GND (power), T16 GND (power), T21 GND (power), U6 VDD (power), U21 VDD_CORE (power), V6 VDD (power), V21 GND (power), V23 GND (power), W4 GND (power), W6 GND (power), W21 GND (power), Y6 VDD (power), Y21 VDD (power), Y23 VDD_DEVCLK_PLL (power)

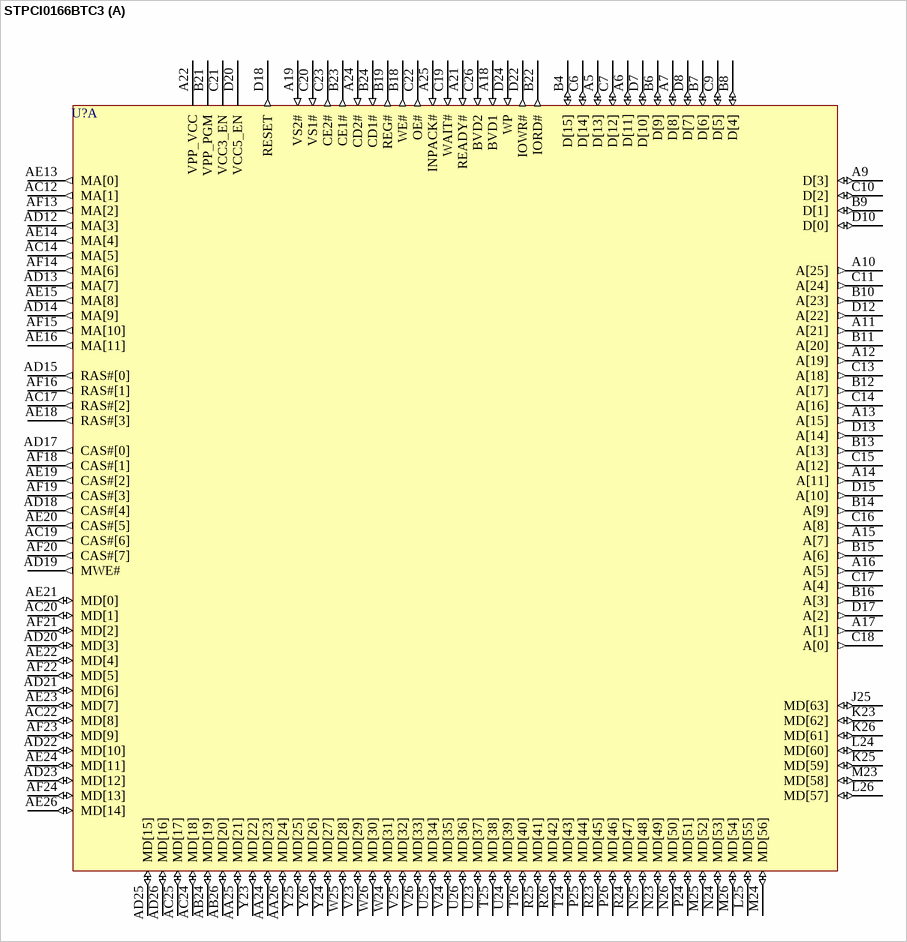
[diagram p52: symbol STPCI0166BTC3]

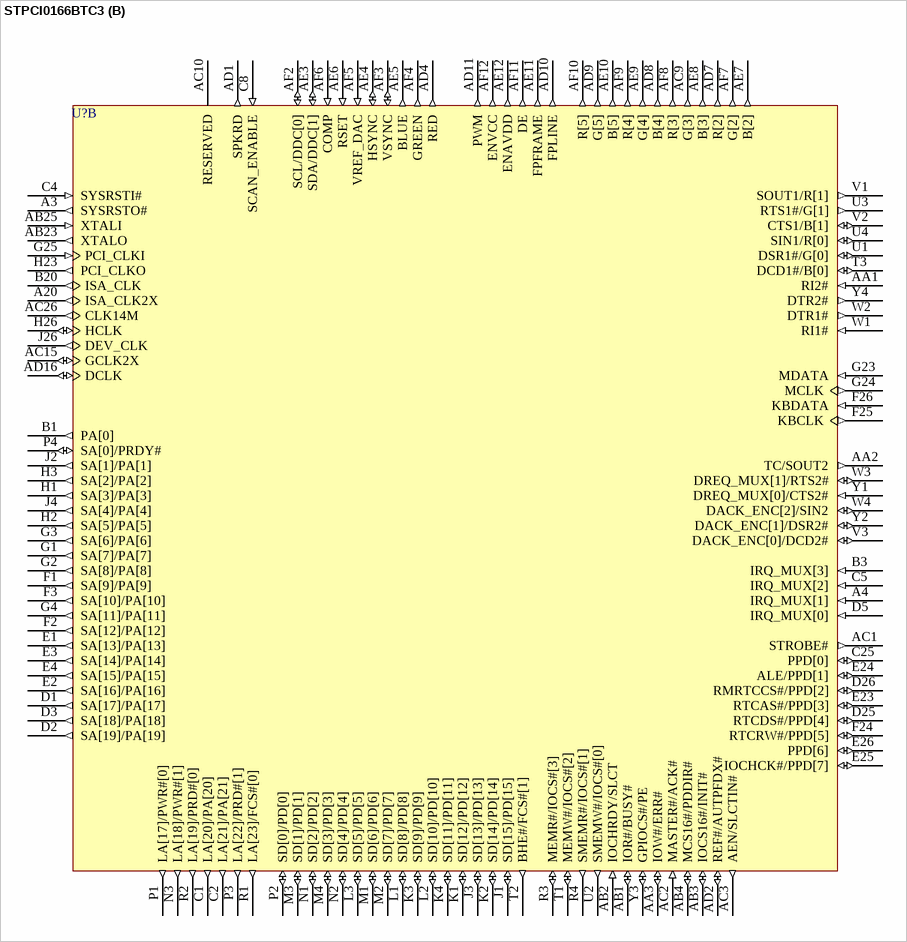
[diagram p53: symbol STPCI0166BTC3]

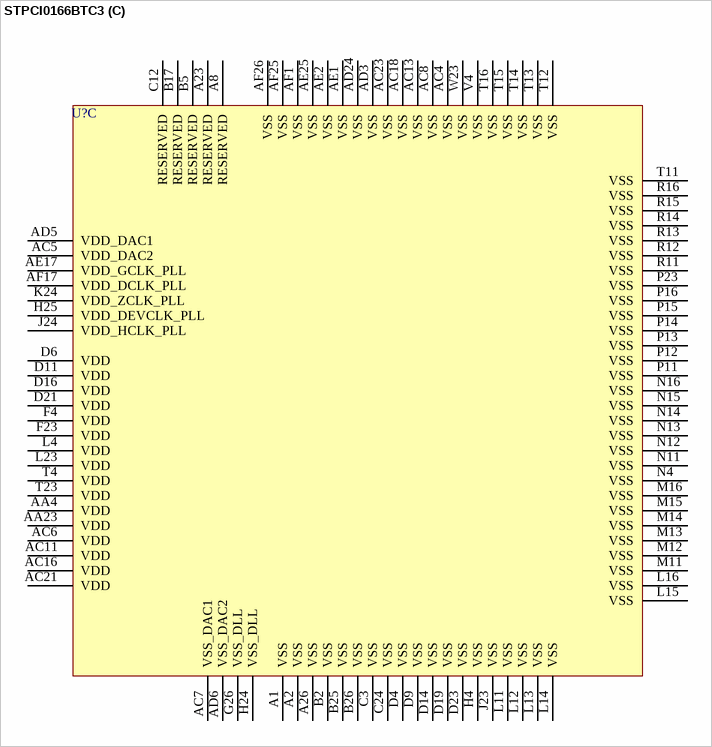
[diagram p54: symbol STPCI0166BTC3]

## STPCI0166BTC3
designator U?
STPCI01 PC Compatible Embedded Microprocessor, 66 MHz Core Speed, 388-Pin PBGA, Commercial; Published: 26-May-2004; LatestRevisionDate: 6-Jun-2005; LatestRevisionNote: Stylized 3D Model Added.; DatasheetDocument: Issue 2.4, 11-Feb-2002; PackageDocument: Oct-2000; PackageReference: PBGA388; Publisher: Altium Limited; ComponentLink1Description: Manufacturer Link; ComponentLink1URL: http://www.st.com/
footprint PBGA388 (BGA, Plastic; 388 Balls; Body 35 x 35 mm; Pitch 1.27 mm)
3D model STPCI01-PBGA388 (BGA, Plastic; 388 Balls; Body 35 x 35 mm; Pitch 1.27 mm)
part A pins: A5 D[13] (io), A6 D[11] (io), A7 D[8] (io), A9 D[3] (io), A10 A[25] (out), A11 A[21] (out), A12 A[19] (out), A13 A[15] (out), A14 A[11] (out), A15 A[7] (out), A16 A[5] (out), A17 A[1] (out), A18 BVD1 (in), A19 VS2# (in), A21 READY# (in), A22 VPP_VCC (power), A24 CD2# (in), A25 INPACK# (in), AA24 MD[23] (io), AA25 MD[21] (io), AA26 MD[24] (io), AB24 MD[19] (io), AB26 MD[20] (io), AC12 MA[1] (out), AC14 MA[5] (out), AC17 RAS#[2] (out), AC19 CAS#[6] (out), AC20 MD[1] (io), AC22 MD[8] (io), AC24 MD[18] (io), AC25 MD[17] (io), AD12 MA[3] (out), AD13 MA[7] (out), AD14 MA[9] (out), AD15 RAS#[0] (out), AD17 CAS#[0] (out), AD18 CAS#[4] (out), AD19 MWE# (out), AD20 MD[3] (io), AD21 MD[6] (io), AD22 MD[10] (io), AD23 MD[12] (io), AD25 MD[15] (io), AD26 MD[16] (io), AE13 MA[0] (out), AE14 MA[4] (out), AE15 MA[8] (out), AE16 MA[11] (out), AE18 RAS#[3] (out), AE19 CAS#[2] (out), AE20 CAS#[5] (out), AE21 MD[0] (io), AE22 MD[4] (io), AE23 MD[7] (io), AE24 MD[11] (io), AE26 MD[14] (io), AF13 MA[2] (out), AF14 MA[6] (out), AF15 MA[10] (out), AF16 RAS#[1] (out), AF18 CAS#[1] (out), AF19 CAS#[3] (out), AF20 CAS#[7] (out), AF21 MD[2] (io), AF22 MD[5] (io), AF23 MD[9] (io), AF24 MD[13] (io), B4 D[15] (io), B6 D[9] (io), B7 D[6] (io), B8 D[4] (io), B9 D[1] (io), B10 A[23] (out), B11 A[20] (out), B12 A[17] (out), B13 A[13] (out), B14 A[9] (out), B15 A[6] (out), B16 A[3] (out), B18 WE# (out), B19 REG# (out), B21 VPP_PGM (power), B22 IORD# (out), B23 CE1# (out), B24 CD1# (in), C6 D[14] (io), C7 D[12] (io), C9 D[5] (io), C10 D[2] (io), C11 A[24] (out), C13 A[18] (out), C14 A[16] (out), C15 A[12] (out), C16 A[8] (out), C17 A[4] (out), C18 A[0] (out), C19 WAIT# (in), C20 VS1# (in), C21 VCC3_EN (power), C22 OE# (out), C23 CE2# (out), C26 BVD2 (in), D7 D[10] (io), D8 D[7] (io), D10 D[0] (io), D12 A[22] (out), D13 A[14] (out), D15 A[10] (out), D17 A[2] (out), D18 RESET (out), D20 VCC5_EN (power), D22 IOWR# (out), D24 WP (in), J25 MD[63] (io), K23 MD[62] (io), K25 MD[59] (io), K26 MD[61] (io), L24 MD[60] (io), L25 MD[55] (io), L26 MD[57] (io), M23 MD[58] (io), M24 MD[56] (io), M25 MD[52] (io), M26 MD[54] (io), N23 MD[49] (io), N24 MD[53] (io), N25 MD[48] (io), N26 MD[50] (io), P24 MD[51] (io), P25 MD[44] (io), P26 MD[46] (io), R23 MD[45] (io), R24 MD[47] (io), R25 MD[41] (io), R26 MD[42] (io), T24 MD[43] (io), T25 MD[38] (io), T26 MD[40] (io), U23 MD[37] (io), U24 MD[39] (io), U25 MD[34] (io), U26 MD[36] (io), V23 MD[29] (io), V24 MD[35] (io), V25 MD[32] (io), V26 MD[33] (io), W24 MD[31] (io), W25 MD[28] (io), W26 MD[30] (io), Y23 MD[22] (io), Y24 MD[27] (io), Y25 MD[25] (io), Y26 MD[26] (io)
part B pins: A3 SYSRSTO# (out), A4 IRQ_MUX[1] (in), A20 ISA_CLK2X (out), AA1 RI2# (in), AA2 TC/SOUT2 (out), AA3 IOW#/ERR# (io), AB1 IOR#/BUSY# (io), AB2 IOCHRDY/SLCT (in), AB3 IOCS16#/INIT# (io), AB4 MCS16#/PDDIR# (io), AB23 XTALO (out), AB25 XTALI (in), AC1 STROBE# (out), AC2 MASTER#/ACK# (in), AC3 AEN/SLCTIN# (out), AC9 G[3] (out), AC10 RESERVED, AC15 GCLK2X (io), AC26 CLK14M (out), AD1 SPKRD (out), AD2 REF#/AUTPFDX# (io), AD4 RED (out), AD7 R[2] (out), AD8 B[4] (out), AD9 G[5] (out), AD10 FPLINE (out), AD11 PWM (out), AD16 DCLK (io), AE3 SDA/DDC[1] (io), AE4 HSYNC (io), AE5 BLUE (out), AE6 RSET (in), AE7 B[2] (out), AE8 B[3] (out), AE9 G[4] (out), AE10 B[5] (out), AE11 FPFRAME (out), AE12 ENAVDD (out), AF2 SCL/DDC[0] (io), AF3 VSYNC (io), AF4 GREEN (out), AF5 VREF_DAC (in), AF6 COMP (in), AF7 G[2] (out), AF8 R[3] (out), AF9 R[4] (out), AF10 R[5] (out), AF11 DE (out), AF12 ENVCC (out), B1 PA[0] (out), B3 IRQ_MUX[3] (in), B20 ISA_CLK (out), C1 LA[20]/PA[20] (out), C2 LA[21]/PA[21] (out), C4 SYSRSTI# (in), C5 IRQ_MUX[2] (in), C8 SCAN_ENABLE (in), C25 PPD[0] (io), D1 SA[17]/PA[17] (out), D2 SA[19]/PA[19] (out), D3 SA[18]/PA[18] (out), D5 IRQ_MUX[0] (in), D25 RTCDS#/PPD[4] (io), D26 RMRTCCS#/PPD[2] (io), E1 SA[13]/PA[13] (out), E2 SA[16]/PA[16] (out), E3 SA[14]/PA[14] (out), E4 SA[15]/PA[15] (out), E23 RTCAS#/PPD[3] (io), E24 ALE/PPD[1] (io), E25 IOCHCK#/PPD[7] (io), E26 PPD[6] (io), F1 SA[9]/PA[9] (out), F2 SA[12]/PA[12] (out), F3 SA[10]/PA[10] (out), F24 RTCRW#/PPD[5] (io), F25 KBCLK (out), F26 KBDATA (in), G1 SA[7]/PA[7] (out), G2 SA[8]/PA[8] (out), G3 SA[6]/PA[6] (out), G4 SA[11]/PA[11] (out), G23 MDATA (in), G24 MCLK (out), G25 PCI_CLKI (in), H1 SA[3]/PA[3] (out), H2 SA[5]/PA[5] (out), H3 SA[2]/PA[2] (out), H23 PCI_CLKO (out), H26 HCLK (io), J1 SD[15]/PD[15] (io), J2 SA[1]/PA[1] (out), J3 SD[13]/PD[13] (io), J4 SA[4]/PA[4] (out), J26 DEV_CLK (out), K1 SD[12]/PD[12] (io), K2 SD[14]/PD[14] (io), K3 SD[9]/PD[9] (io), K4 SD[11]/PD[11] (io), L1 SD[8]/PD[8] (io), L2 SD[10]/PD[10] (io), L3 SD[5]/PD[5] (io), M1 SD[6]/PD[6] (io), M2 SD[7]/PD[7] (io), M3 SD[1]/PD[1] (io), M4 SD[3]/PD[3] (io), N1 SD[2]/PD[2] (io), N2 SD[4]/PD[4] (io), N3 LA[18]/PWR#[1] (out), P1 LA[17]/PWR#[0] (out), P2 SD[0]/PD[0] (io), P3 LA[22]/PRD#[1] (out), P4 SA[0]/PRDY# (io), R1 LA[23]/FCS#[0] (out), R2 LA[19]/PRD#[0] (out), R3 MEMR#/IOCS#[3] (io), R4 SMEMR#/IOCS#[1] (out), T1 MEMW#/IOCS#[2] (io), T2 BHE#/FCS#[1] (out), T3 DCD1#/B[0] (io), U1 DSR1#/G[0] (io), U2 SMEMW#/IOCS#[0] (out), U3 RTS1#/G[1] (out), U4 SIN1/R[0] (io), V1 SOUT1/R[1] (out), V2 CTS1/B[1] (io), V3 DACK_ENC[0]/DCD2# (io), W1 RI1# (in), W2 DTR1# (out), W3 DREQ_MUX[1]/RTS2# (io), W4 DACK_ENC[2]/SIN2 (io), Y1 DREQ_MUX[0]/CTS2# (in), Y2 DACK_ENC[1]/DSR2# (io), Y3 GPIOCS#/PE (io), Y4 DTR2# (out)
part C pins: A1 VSS (power), A2 VSS (power), A8 RESERVED, A23 RESERVED, A26 VSS (power), AA4 VDD (power), AA23 VDD (power), AC4 VSS (power), AC5 VDD_DAC2 (power), AC6 VDD (power), AC7 VSS_DAC1 (power), AC8 VSS (power), AC11 VDD (power), AC13 VSS (power), AC16 VDD (power), AC18 VSS (power), AC21 VDD (power), AC23 VSS (power), AD3 VSS (power), AD5 VDD_DAC1 (power), AD6 VSS_DAC2 (power), AD24 VSS (power), AE1 VSS (power), AE2 VSS (power), AE17 VDD_GCLK_PLL (power), AE25 VSS (power), AF1 VSS (power), AF17 VDD_DCLK_PLL (power), AF25 VSS (power), AF26 VSS (power), B2 VSS (power), B5 RESERVED, B17 RESERVED, B25 VSS (power), B26 VSS (power), C3 VSS (power), C12 RESERVED, C24 VSS (power), D4 VSS (power), D6 VDD (power), D9 VSS (power), D11 VDD (power), D14 VSS (power), D16 VDD (power), D19 VSS (power), D21 VDD (power), D23 VSS (power), F4 VDD (power), F23 VDD (power), G26 VSS_DLL (power), H4 VSS (power), H24 VSS_DLL (power), H25 VDD_DEVCLK_PLL (power), J23 VSS (power), J24 VDD_HCLK_PLL (power), K24 VDD_ZCLK_PLL (power), L4 VDD (power), L11 VSS (power), L12 VSS (power), L13 VSS (power), L14 VSS (power), L15 VSS (power), L16 VSS (power), L23 VDD (power), M11 VSS (power), M12 VSS (power), M13 VSS (power), M14 VSS (power), M15 VSS (power), M16 VSS (power), N4 VSS (power), N11 VSS (power), N12 VSS (power), N13 VSS (power), N14 VSS (power), N15 VSS (power), N16 VSS (power), P11 VSS (power), P12 VSS (power), P13 VSS (power), P14 VSS (power), P15 VSS (power), P16 VSS (power), P23 VSS (power), R11 VSS (power), R12 VSS (power), R13 VSS (power), R14 VSS (power), R15 VSS (power), R16 VSS (power), T4 VDD (power), T11 VSS (power), T12 VSS (power), T13 VSS (power), T14 VSS (power), T15 VSS (power), T16 VSS (power), T23 VDD (power), V4 VSS (power), W23 VSS (power)

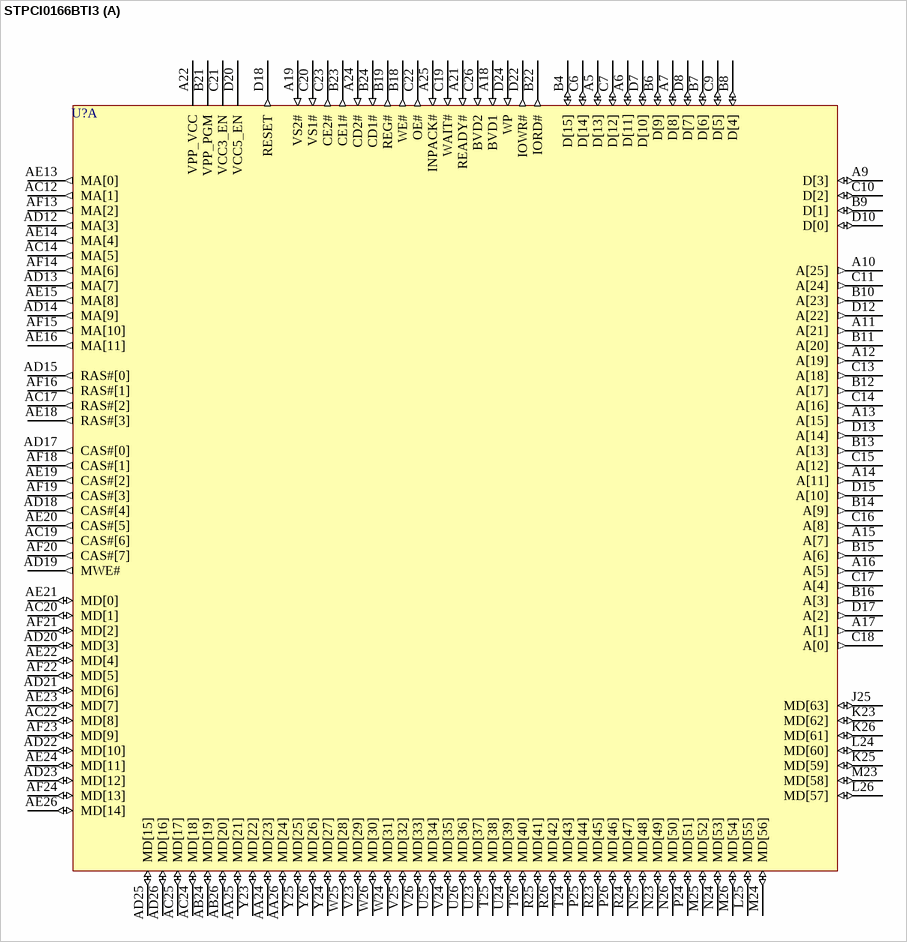
[diagram p55: symbol STPCI0166BTI3]

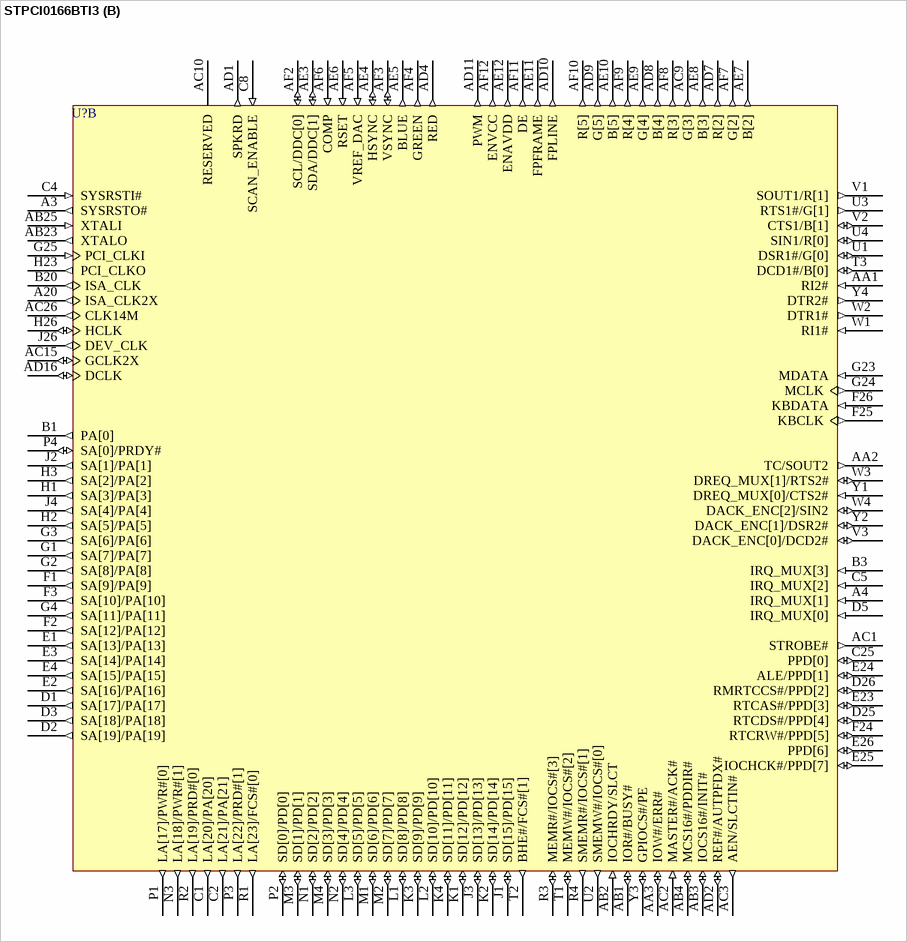
[diagram p56: symbol STPCI0166BTI3]

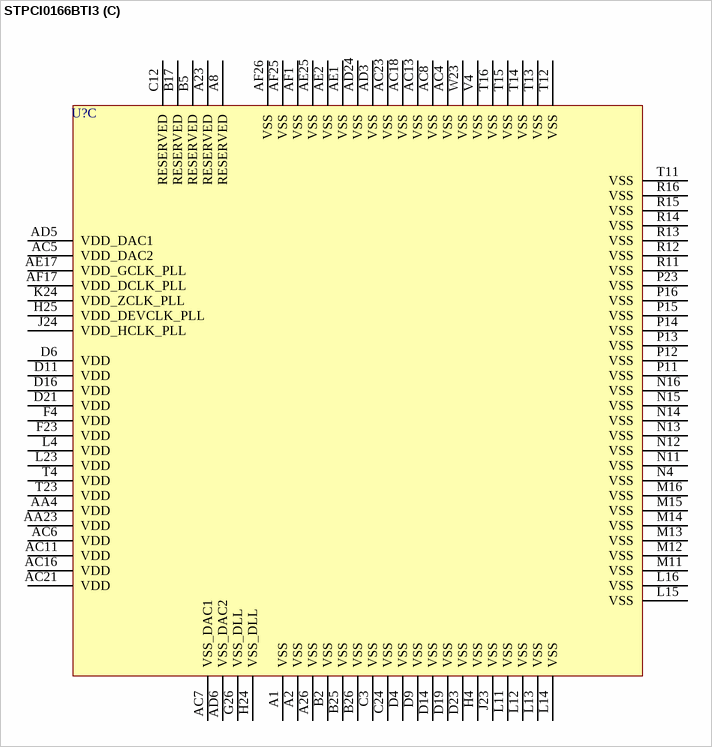
[diagram p57: symbol STPCI0166BTI3]